# Altium schematic symbol library aiskylab-MCUs.SchLib: 242 symbols (part 13 of 21)
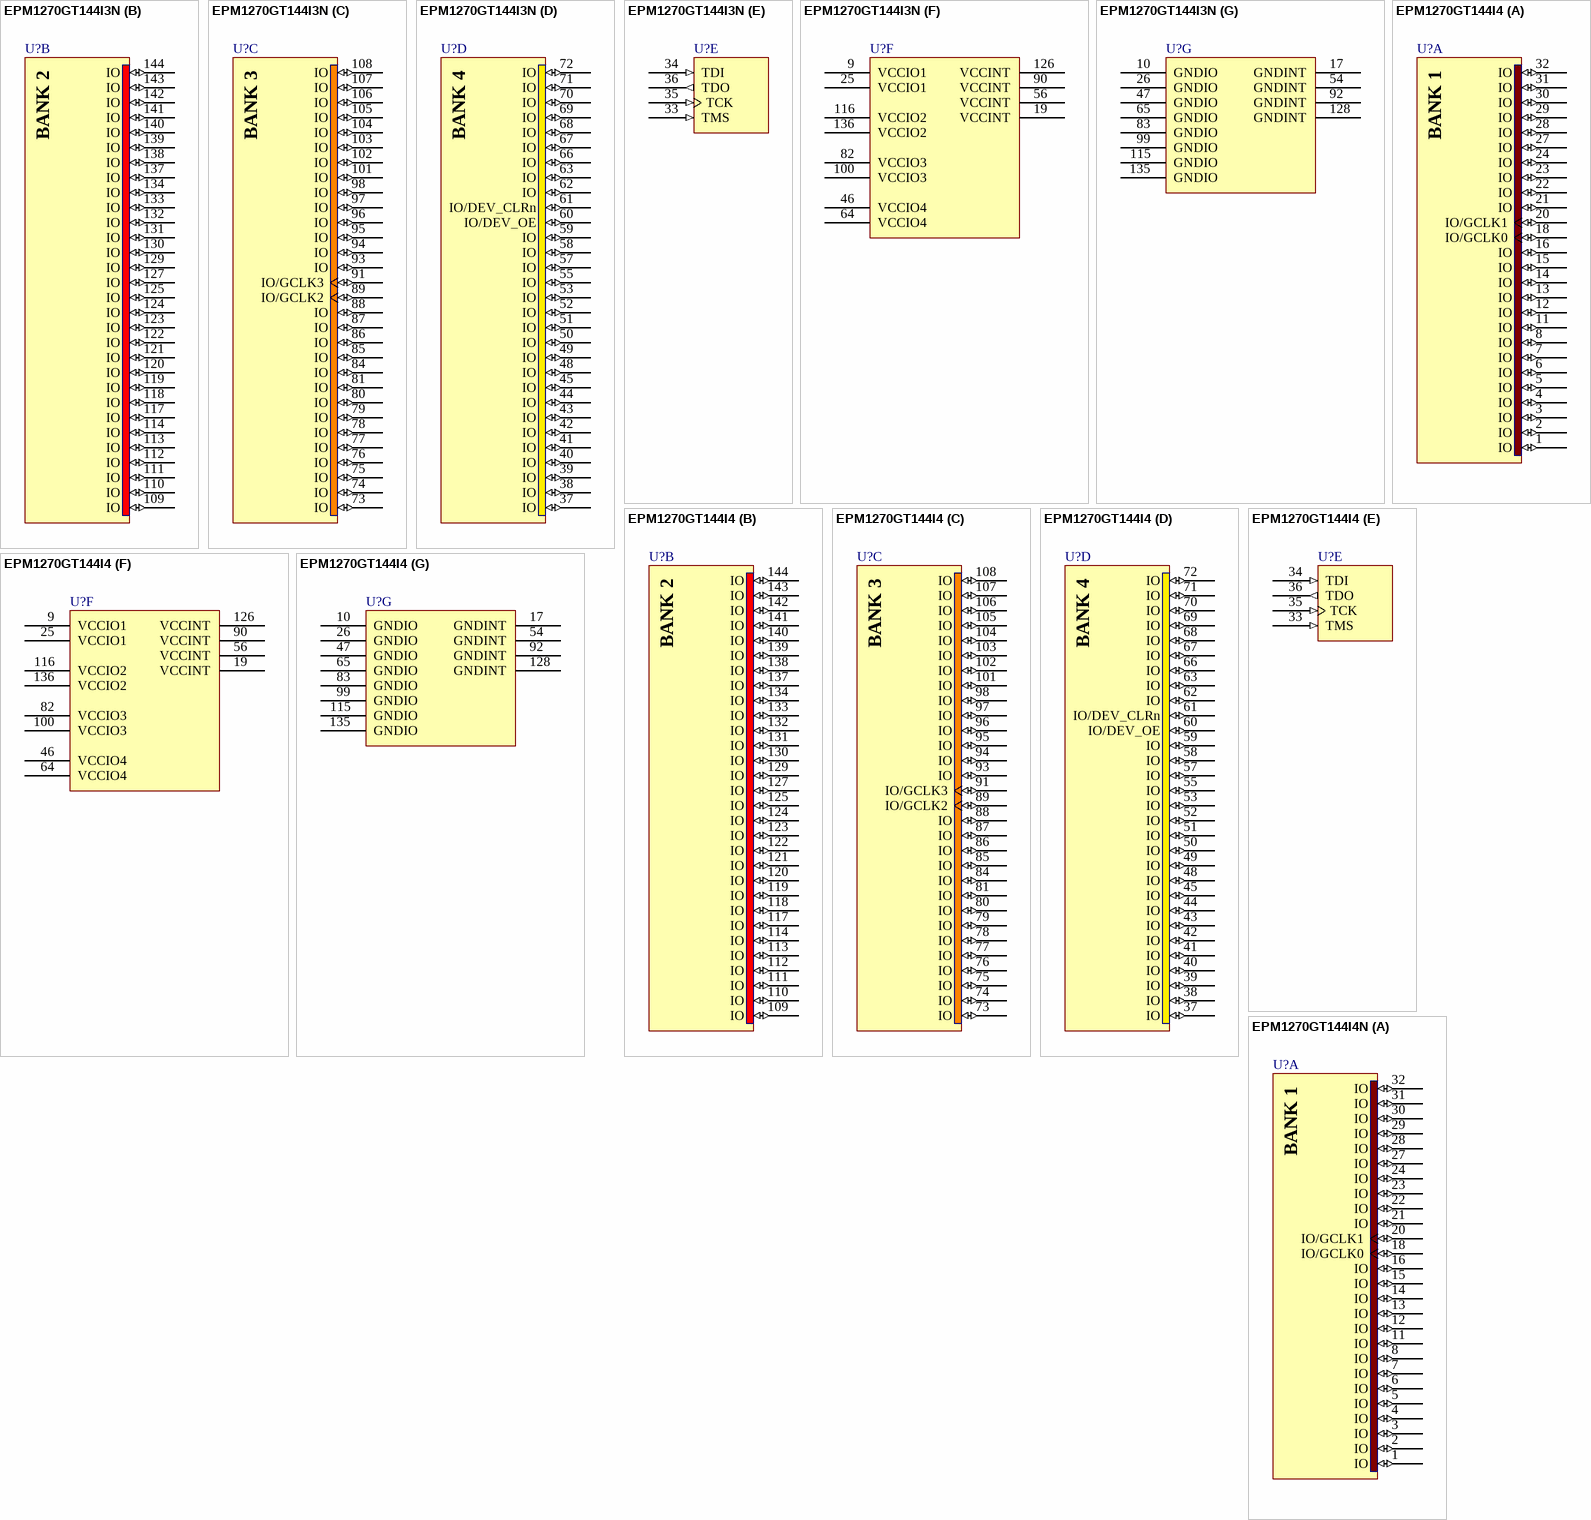
[diagram p176: symbols EPM1270GT144I3N to EPM1270GT144I4N]

## EPM1270GT144I4
designator U?
MAX II 1.8V CPLD, 116 IOs, 1,270 Logic Elements, 144-Pin Plastic TQFP, Industrial Temperature, Speed Grade 4; Note: Each set of VCCIO pins can be connected to 3.3V, 2.5V, 1.8V, or 1.5V.; Note: All VCCINT pins must be connected to 1.8V.; Published: 18-Aug-2005; LatestRevisionDate: 13-Apr-2006; LatestRevisionNote: IPC-7351 Footprint Added.; DatasheetVersion: ver1.8, Jul-2006; PackageVersion: ver15.4, Dec-2008; PackageReference: TQFP144; Publisher: Altium Limited; PackageDescription: 144-Pin Plastic Thin Quad Flat Pack (TQFP144) - Wire Bond; Code_JEDEC: MS-026-BFB; ComponentLink1Description: Manufacturer Link; ComponentLink1URL: http://www.altera.com/products/devices/cpld/max2/mx2-index.jsp; ComponentLink2Description: Handbook; ComponentLink2URL: http://www.altera.com/literature/hb/max2/max2_mii5v1.pdf; ComponentLink3Description: Packaging Specification; ComponentLink3URL: http://www.altera.com/literature/ds/dspkg.pdf
footprint TQFP144_N (Thin QFP, 144-Leads, Body 20x20mm, Pitch 0.5mm, IPC Medium Density)
footprint TQFP144_L (Thin QFP, 144-Leads, Body 20x20mm, Pitch 0.5mm, IPC High Density)
footprint TQFP144_M (Thin QFP, 144-Leads, Body 20x20mm, Pitch 0.5mm, IPC Low Density)
3D model EPM1270-TQFP144 (144-Pin Plastic Thin Quad Flat Pack (TQFP144) - Wire Bond)
part A pins: 1 IO (io), 2 IO (io), 3 IO (io), 4 IO (io), 5 IO (io), 6 IO (io), 7 IO (io), 8 IO (io), 11 IO (io), 12 IO (io), 13 IO (io), 14 IO (io), 15 IO (io), 16 IO (io), 18 IO/GCLK0 (io), 20 IO/GCLK1 (io), 21 IO (io), 22 IO (io), 23 IO (io), 24 IO (io), 27 IO (io), 28 IO (io), 29 IO (io), 30 IO (io), 31 IO (io), 32 IO (io)
part B pins: 109 IO (io), 110 IO (io), 111 IO (io), 112 IO (io), 113 IO (io), 114 IO (io), 117 IO (io), 118 IO (io), 119 IO (io), 120 IO (io), 121 IO (io), 122 IO (io), 123 IO (io), 124 IO (io), 125 IO (io), 127 IO (io), 129 IO (io), 130 IO (io), 131 IO (io), 132 IO (io), 133 IO (io), 134 IO (io), 137 IO (io), 138 IO (io), 139 IO (io), 140 IO (io), 141 IO (io), 142 IO (io), 143 IO (io), 144 IO (io)
part C pins: 73 IO (io), 74 IO (io), 75 IO (io), 76 IO (io), 77 IO (io), 78 IO (io), 79 IO (io), 80 IO (io), 81 IO (io), 84 IO (io), 85 IO (io), 86 IO (io), 87 IO (io), 88 IO (io), 89 IO/GCLK2 (io), 91 IO/GCLK3 (io), 93 IO (io), 94 IO (io), 95 IO (io), 96 IO (io), 97 IO (io), 98 IO (io), 101 IO (io), 102 IO (io), 103 IO (io), 104 IO (io), 105 IO (io), 106 IO (io), 107 IO (io), 108 IO (io)
part D pins: 37 IO (io), 38 IO (io), 39 IO (io), 40 IO (io), 41 IO (io), 42 IO (io), 43 IO (io), 44 IO (io), 45 IO (io), 48 IO (io), 49 IO (io), 50 IO (io), 51 IO (io), 52 IO (io), 53 IO (io), 55 IO (io), 57 IO (io), 58 IO (io), 59 IO (io), 60 IO/DEV_OE (io), 61 IO/DEV_CLRn (io), 62 IO (io), 63 IO (io), 66 IO (io), 67 IO (io), 68 IO (io), 69 IO (io), 70 IO (io), 71 IO (io), 72 IO (io)
part E pins: 33 TMS (in), 34 TDI (in), 35 TCK (in), 36 TDO (out)
part F pins: 9 VCCIO1 (power), 19 VCCINT (power), 25 VCCIO1 (power), 46 VCCIO4 (power), 56 VCCINT (power), 64 VCCIO4 (power), 82 VCCIO3 (power), 90 VCCINT (power), 100 VCCIO3 (power), 116 VCCIO2 (power), 126 VCCINT (power), 136 VCCIO2 (power)
part G pins: 10 GNDIO (power), 17 GNDINT (power), 26 GNDIO (power), 47 GNDIO (power), 54 GNDINT (power), 65 GNDIO (power), 83 GNDIO (power), 92 GNDINT (power), 99 GNDIO (power), 115 GNDIO (power), 128 GNDINT (power), 135 GNDIO (power)
part A text: BANK 1
part B text: BANK 2
part C text: BANK 3
part D text: BANK 4

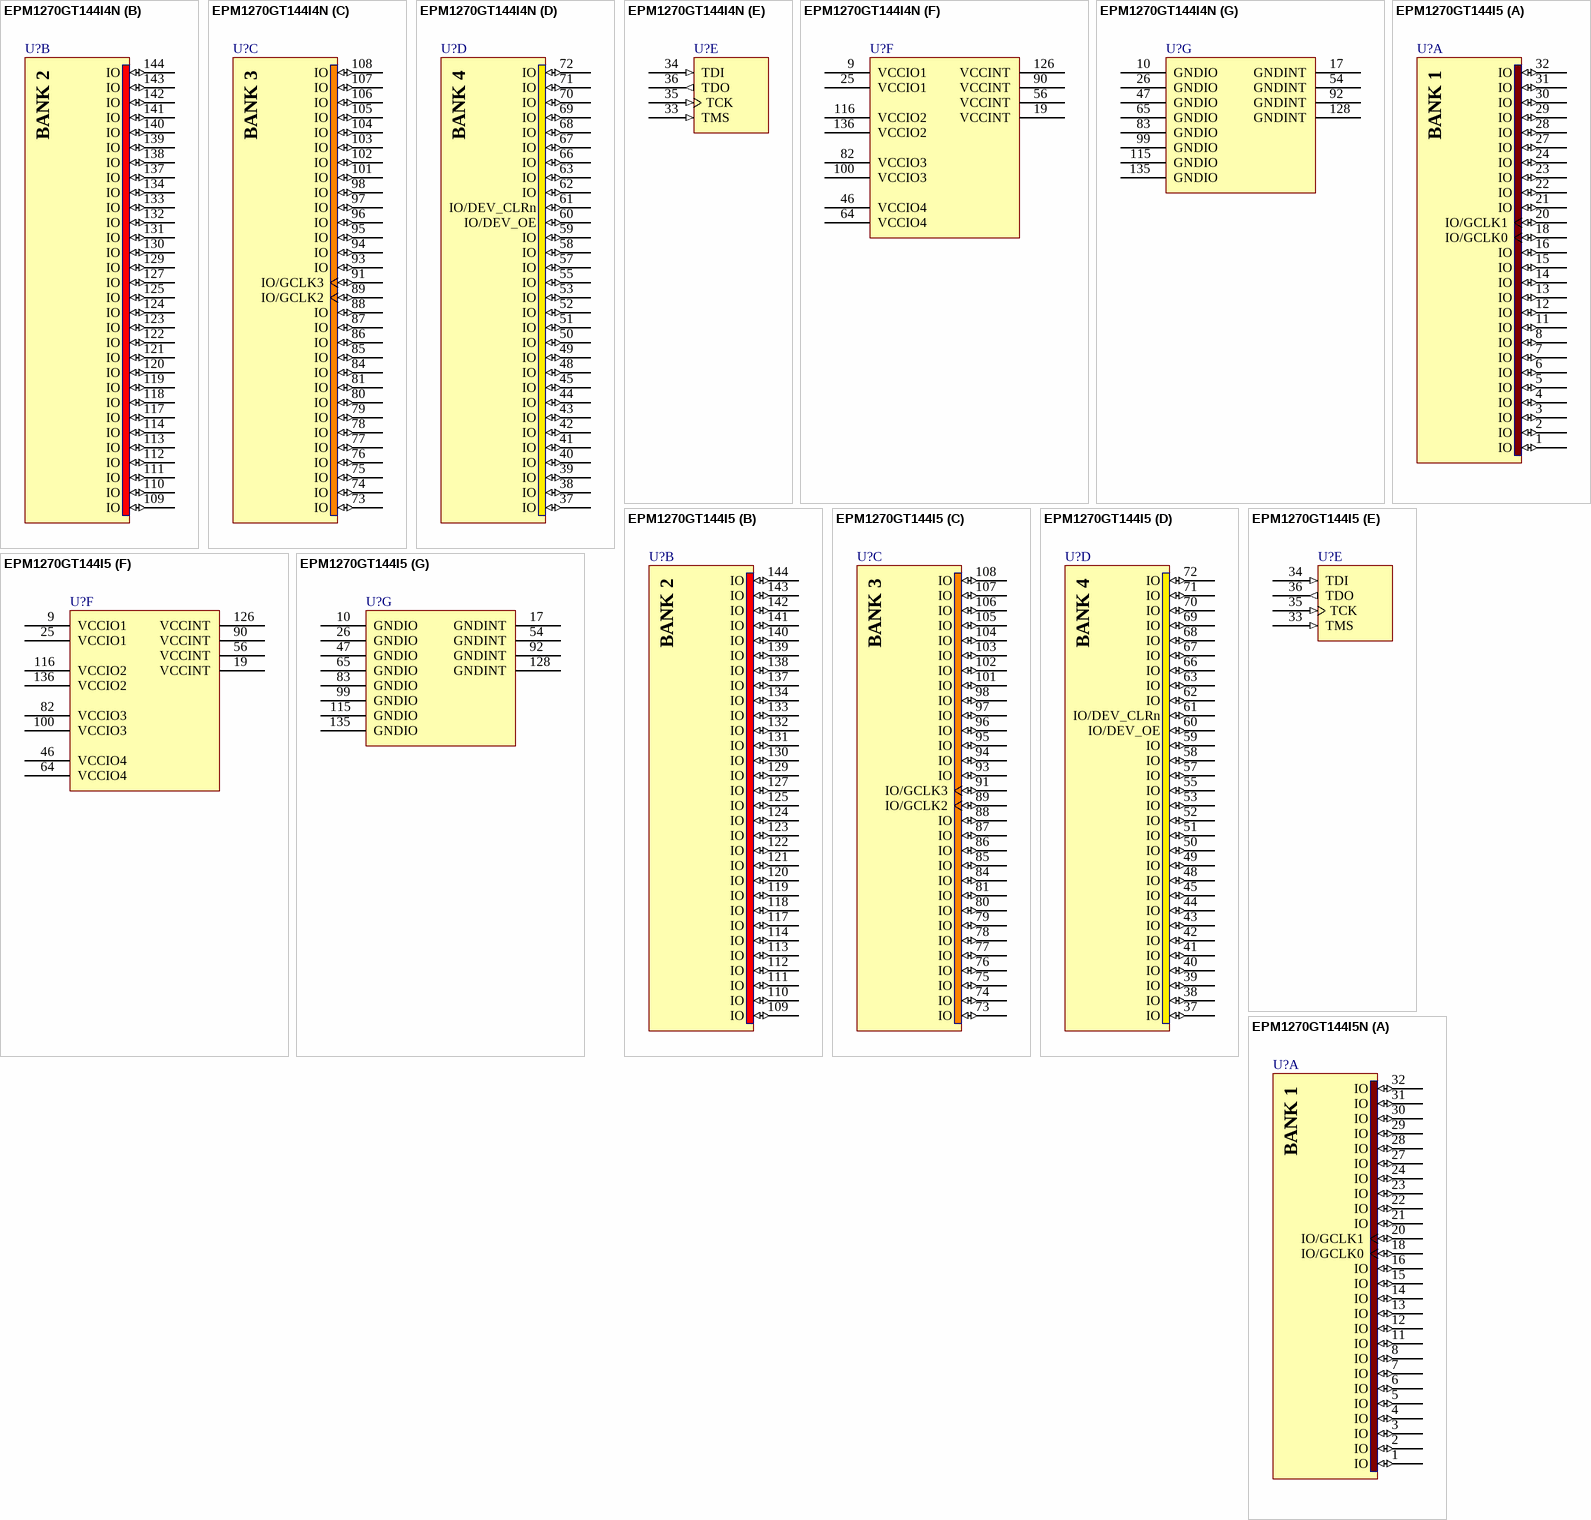
[diagram p100: symbols EPM1270GT144I4N to EPM1270GT144I5N]

## EPM1270GT144I4N
designator U?
MAX II 1.8V CPLD, 116 IOs, 1,270 Logic Elements, 144-Pin Plastic TQFP, Industrial Temperature, Speed Grade 4, Pb-Free; Note: Each set of VCCIO pins can be connected to 3.3V, 2.5V, 1.8V, or 1.5V.; Note: All VCCINT pins must be connected to 1.8V.; Published: 18-Aug-2005; LatestRevisionDate: 13-Apr-2006; LatestRevisionNote: IPC-7351 Footprint Added.; DatasheetVersion: ver1.8, Jul-2006; PackageVersion: ver15.4, Dec-2008; PackageReference: TQFP144; Publisher: Altium Limited; PackageDescription: 144-Pin Plastic Thin Quad Flat Pack (TQFP144) - Wire Bond; Code_JEDEC: MS-026-BFB; ComponentLink1Description: Manufacturer Link; ComponentLink1URL: http://www.altera.com/products/devices/cpld/max2/mx2-index.jsp; ComponentLink2Description: Handbook; ComponentLink2URL: http://www.altera.com/literature/hb/max2/max2_mii5v1.pdf; ComponentLink3Description: Packaging Specification; ComponentLink3URL: http://www.altera.com/literature/ds/dspkg.pdf
footprint TQFP144_N (Thin QFP, 144-Leads, Body 20x20mm, Pitch 0.5mm, IPC Medium Density)
footprint TQFP144_L (Thin QFP, 144-Leads, Body 20x20mm, Pitch 0.5mm, IPC High Density)
footprint TQFP144_M (Thin QFP, 144-Leads, Body 20x20mm, Pitch 0.5mm, IPC Low Density)
3D model EPM1270-TQFP144 (144-Pin Plastic Thin Quad Flat Pack (TQFP144) - Wire Bond)
part A pins: 1 IO (io), 2 IO (io), 3 IO (io), 4 IO (io), 5 IO (io), 6 IO (io), 7 IO (io), 8 IO (io), 11 IO (io), 12 IO (io), 13 IO (io), 14 IO (io), 15 IO (io), 16 IO (io), 18 IO/GCLK0 (io), 20 IO/GCLK1 (io), 21 IO (io), 22 IO (io), 23 IO (io), 24 IO (io), 27 IO (io), 28 IO (io), 29 IO (io), 30 IO (io), 31 IO (io), 32 IO (io)
part B pins: 109 IO (io), 110 IO (io), 111 IO (io), 112 IO (io), 113 IO (io), 114 IO (io), 117 IO (io), 118 IO (io), 119 IO (io), 120 IO (io), 121 IO (io), 122 IO (io), 123 IO (io), 124 IO (io), 125 IO (io), 127 IO (io), 129 IO (io), 130 IO (io), 131 IO (io), 132 IO (io), 133 IO (io), 134 IO (io), 137 IO (io), 138 IO (io), 139 IO (io), 140 IO (io), 141 IO (io), 142 IO (io), 143 IO (io), 144 IO (io)
part C pins: 73 IO (io), 74 IO (io), 75 IO (io), 76 IO (io), 77 IO (io), 78 IO (io), 79 IO (io), 80 IO (io), 81 IO (io), 84 IO (io), 85 IO (io), 86 IO (io), 87 IO (io), 88 IO (io), 89 IO/GCLK2 (io), 91 IO/GCLK3 (io), 93 IO (io), 94 IO (io), 95 IO (io), 96 IO (io), 97 IO (io), 98 IO (io), 101 IO (io), 102 IO (io), 103 IO (io), 104 IO (io), 105 IO (io), 106 IO (io), 107 IO (io), 108 IO (io)
part D pins: 37 IO (io), 38 IO (io), 39 IO (io), 40 IO (io), 41 IO (io), 42 IO (io), 43 IO (io), 44 IO (io), 45 IO (io), 48 IO (io), 49 IO (io), 50 IO (io), 51 IO (io), 52 IO (io), 53 IO (io), 55 IO (io), 57 IO (io), 58 IO (io), 59 IO (io), 60 IO/DEV_OE (io), 61 IO/DEV_CLRn (io), 62 IO (io), 63 IO (io), 66 IO (io), 67 IO (io), 68 IO (io), 69 IO (io), 70 IO (io), 71 IO (io), 72 IO (io)
part E pins: 33 TMS (in), 34 TDI (in), 35 TCK (in), 36 TDO (out)
part F pins: 9 VCCIO1 (power), 19 VCCINT (power), 25 VCCIO1 (power), 46 VCCIO4 (power), 56 VCCINT (power), 64 VCCIO4 (power), 82 VCCIO3 (power), 90 VCCINT (power), 100 VCCIO3 (power), 116 VCCIO2 (power), 126 VCCINT (power), 136 VCCIO2 (power)
part G pins: 10 GNDIO (power), 17 GNDINT (power), 26 GNDIO (power), 47 GNDIO (power), 54 GNDINT (power), 65 GNDIO (power), 83 GNDIO (power), 92 GNDINT (power), 99 GNDIO (power), 115 GNDIO (power), 128 GNDINT (power), 135 GNDIO (power)
part A text: BANK 1
part B text: BANK 2
part C text: BANK 3
part D text: BANK 4

## EPM1270GT144I5
designator U?
MAX II 1.8V CPLD, 116 IOs, 1,270 Logic Elements, 144-Pin Plastic TQFP, Industrial Temperature, Speed Grade 5; Note: Each set of VCCIO pins can be connected to 3.3V, 2.5V, 1.8V, or 1.5V.; Note: All VCCINT pins must be connected to 1.8V.; Published: 18-Aug-2005; LatestRevisionDate: 13-Apr-2006; LatestRevisionNote: IPC-7351 Footprint Added.; DatasheetVersion: ver1.8, Jul-2006; PackageVersion: ver15.4, Dec-2008; PackageReference: TQFP144; Publisher: Altium Limited; PackageDescription: 144-Pin Plastic Thin Quad Flat Pack (TQFP144) - Wire Bond; Code_JEDEC: MS-026-BFB; ComponentLink1Description: Manufacturer Link; ComponentLink1URL: http://www.altera.com/products/devices/cpld/max2/mx2-index.jsp; ComponentLink2Description: Handbook; ComponentLink2URL: http://www.altera.com/literature/hb/max2/max2_mii5v1.pdf; ComponentLink3Description: Packaging Specification; ComponentLink3URL: http://www.altera.com/literature/ds/dspkg.pdf
footprint TQFP144_N (Thin QFP, 144-Leads, Body 20x20mm, Pitch 0.5mm, IPC Medium Density)
footprint TQFP144_L (Thin QFP, 144-Leads, Body 20x20mm, Pitch 0.5mm, IPC High Density)
footprint TQFP144_M (Thin QFP, 144-Leads, Body 20x20mm, Pitch 0.5mm, IPC Low Density)
3D model EPM1270-TQFP144 (144-Pin Plastic Thin Quad Flat Pack (TQFP144) - Wire Bond)
part A pins: 1 IO (io), 2 IO (io), 3 IO (io), 4 IO (io), 5 IO (io), 6 IO (io), 7 IO (io), 8 IO (io), 11 IO (io), 12 IO (io), 13 IO (io), 14 IO (io), 15 IO (io), 16 IO (io), 18 IO/GCLK0 (io), 20 IO/GCLK1 (io), 21 IO (io), 22 IO (io), 23 IO (io), 24 IO (io), 27 IO (io), 28 IO (io), 29 IO (io), 30 IO (io), 31 IO (io), 32 IO (io)
part B pins: 109 IO (io), 110 IO (io), 111 IO (io), 112 IO (io), 113 IO (io), 114 IO (io), 117 IO (io), 118 IO (io), 119 IO (io), 120 IO (io), 121 IO (io), 122 IO (io), 123 IO (io), 124 IO (io), 125 IO (io), 127 IO (io), 129 IO (io), 130 IO (io), 131 IO (io), 132 IO (io), 133 IO (io), 134 IO (io), 137 IO (io), 138 IO (io), 139 IO (io), 140 IO (io), 141 IO (io), 142 IO (io), 143 IO (io), 144 IO (io)
part C pins: 73 IO (io), 74 IO (io), 75 IO (io), 76 IO (io), 77 IO (io), 78 IO (io), 79 IO (io), 80 IO (io), 81 IO (io), 84 IO (io), 85 IO (io), 86 IO (io), 87 IO (io), 88 IO (io), 89 IO/GCLK2 (io), 91 IO/GCLK3 (io), 93 IO (io), 94 IO (io), 95 IO (io), 96 IO (io), 97 IO (io), 98 IO (io), 101 IO (io), 102 IO (io), 103 IO (io), 104 IO (io), 105 IO (io), 106 IO (io), 107 IO (io), 108 IO (io)
part D pins: 37 IO (io), 38 IO (io), 39 IO (io), 40 IO (io), 41 IO (io), 42 IO (io), 43 IO (io), 44 IO (io), 45 IO (io), 48 IO (io), 49 IO (io), 50 IO (io), 51 IO (io), 52 IO (io), 53 IO (io), 55 IO (io), 57 IO (io), 58 IO (io), 59 IO (io), 60 IO/DEV_OE (io), 61 IO/DEV_CLRn (io), 62 IO (io), 63 IO (io), 66 IO (io), 67 IO (io), 68 IO (io), 69 IO (io), 70 IO (io), 71 IO (io), 72 IO (io)
part E pins: 33 TMS (in), 34 TDI (in), 35 TCK (in), 36 TDO (out)
part F pins: 9 VCCIO1 (power), 19 VCCINT (power), 25 VCCIO1 (power), 46 VCCIO4 (power), 56 VCCINT (power), 64 VCCIO4 (power), 82 VCCIO3 (power), 90 VCCINT (power), 100 VCCIO3 (power), 116 VCCIO2 (power), 126 VCCINT (power), 136 VCCIO2 (power)
part G pins: 10 GNDIO (power), 17 GNDINT (power), 26 GNDIO (power), 47 GNDIO (power), 54 GNDINT (power), 65 GNDIO (power), 83 GNDIO (power), 92 GNDINT (power), 99 GNDIO (power), 115 GNDIO (power), 128 GNDINT (power), 135 GNDIO (power)
part A text: BANK 1
part B text: BANK 2
part C text: BANK 3
part D text: BANK 4

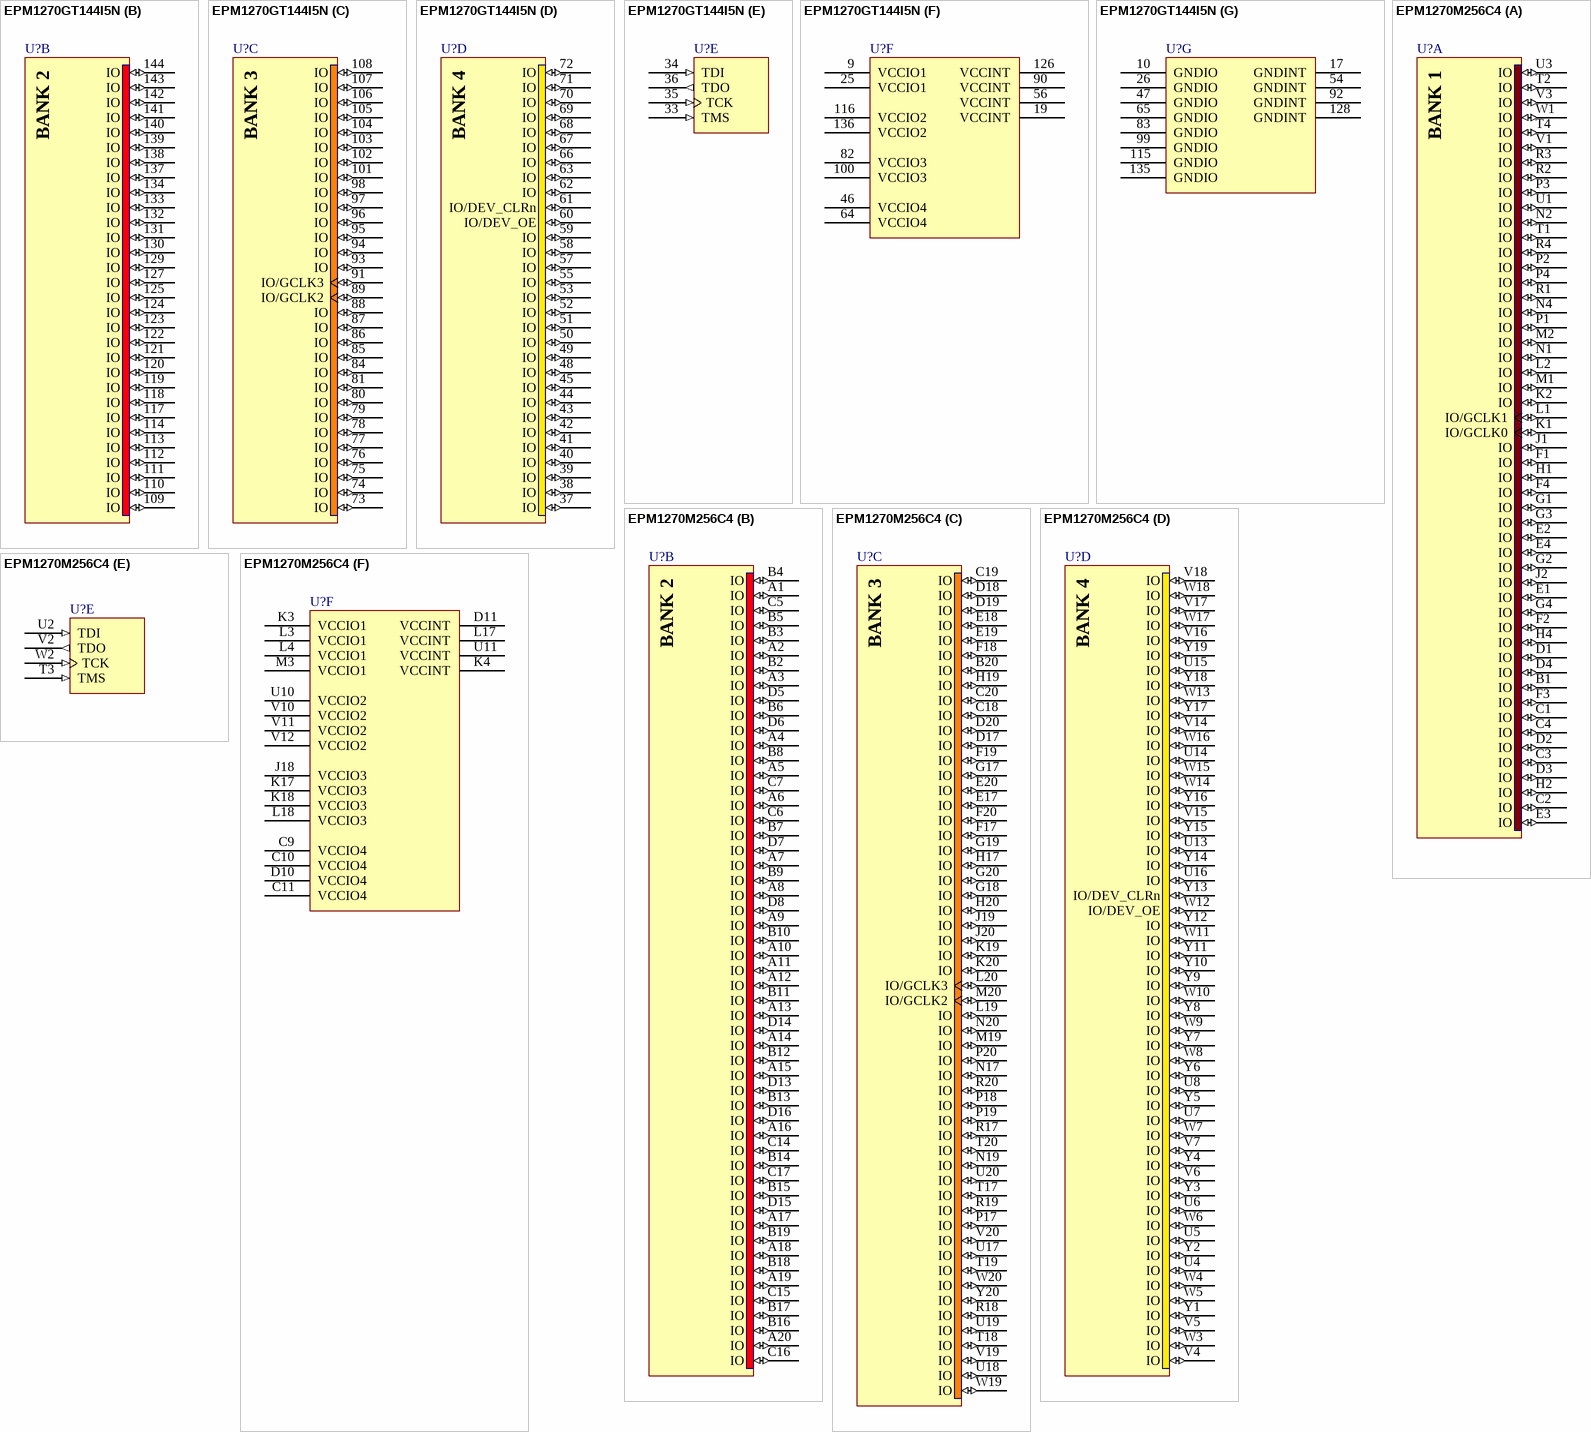
[diagram p101: symbols EPM1270GT144I5N to EPM1270M256C4]

## EPM1270GT144I5N
designator U?
MAX II 1.8V CPLD, 116 IOs, 1,270 Logic Elements, 144-Pin Plastic TQFP, Industrial Temperature, Speed Grade 5, Pb-Free; Note: Each set of VCCIO pins can be connected to 3.3V, 2.5V, 1.8V, or 1.5V.; Note: All VCCINT pins must be connected to 1.8V.; Published: 18-Aug-2005; LatestRevisionDate: 13-Apr-2006; LatestRevisionNote: IPC-7351 Footprint Added.; DatasheetVersion: ver1.8, Jul-2006; PackageVersion: ver15.4, Dec-2008; PackageReference: TQFP144; Publisher: Altium Limited; PackageDescription: 144-Pin Plastic Thin Quad Flat Pack (TQFP144) - Wire Bond; Code_JEDEC: MS-026-BFB; ComponentLink1Description: Manufacturer Link; ComponentLink1URL: http://www.altera.com/products/devices/cpld/max2/mx2-index.jsp; ComponentLink2Description: Handbook; ComponentLink2URL: http://www.altera.com/literature/hb/max2/max2_mii5v1.pdf; ComponentLink3Description: Packaging Specification; ComponentLink3URL: http://www.altera.com/literature/ds/dspkg.pdf
footprint TQFP144_N (Thin QFP, 144-Leads, Body 20x20mm, Pitch 0.5mm, IPC Medium Density)
footprint TQFP144_L (Thin QFP, 144-Leads, Body 20x20mm, Pitch 0.5mm, IPC High Density)
footprint TQFP144_M (Thin QFP, 144-Leads, Body 20x20mm, Pitch 0.5mm, IPC Low Density)
3D model EPM1270-TQFP144 (144-Pin Plastic Thin Quad Flat Pack (TQFP144) - Wire Bond)
part A pins: 1 IO (io), 2 IO (io), 3 IO (io), 4 IO (io), 5 IO (io), 6 IO (io), 7 IO (io), 8 IO (io), 11 IO (io), 12 IO (io), 13 IO (io), 14 IO (io), 15 IO (io), 16 IO (io), 18 IO/GCLK0 (io), 20 IO/GCLK1 (io), 21 IO (io), 22 IO (io), 23 IO (io), 24 IO (io), 27 IO (io), 28 IO (io), 29 IO (io), 30 IO (io), 31 IO (io), 32 IO (io)
part B pins: 109 IO (io), 110 IO (io), 111 IO (io), 112 IO (io), 113 IO (io), 114 IO (io), 117 IO (io), 118 IO (io), 119 IO (io), 120 IO (io), 121 IO (io), 122 IO (io), 123 IO (io), 124 IO (io), 125 IO (io), 127 IO (io), 129 IO (io), 130 IO (io), 131 IO (io), 132 IO (io), 133 IO (io), 134 IO (io), 137 IO (io), 138 IO (io), 139 IO (io), 140 IO (io), 141 IO (io), 142 IO (io), 143 IO (io), 144 IO (io)
part C pins: 73 IO (io), 74 IO (io), 75 IO (io), 76 IO (io), 77 IO (io), 78 IO (io), 79 IO (io), 80 IO (io), 81 IO (io), 84 IO (io), 85 IO (io), 86 IO (io), 87 IO (io), 88 IO (io), 89 IO/GCLK2 (io), 91 IO/GCLK3 (io), 93 IO (io), 94 IO (io), 95 IO (io), 96 IO (io), 97 IO (io), 98 IO (io), 101 IO (io), 102 IO (io), 103 IO (io), 104 IO (io), 105 IO (io), 106 IO (io), 107 IO (io), 108 IO (io)
part D pins: 37 IO (io), 38 IO (io), 39 IO (io), 40 IO (io), 41 IO (io), 42 IO (io), 43 IO (io), 44 IO (io), 45 IO (io), 48 IO (io), 49 IO (io), 50 IO (io), 51 IO (io), 52 IO (io), 53 IO (io), 55 IO (io), 57 IO (io), 58 IO (io), 59 IO (io), 60 IO/DEV_OE (io), 61 IO/DEV_CLRn (io), 62 IO (io), 63 IO (io), 66 IO (io), 67 IO (io), 68 IO (io), 69 IO (io), 70 IO (io), 71 IO (io), 72 IO (io)
part E pins: 33 TMS (in), 34 TDI (in), 35 TCK (in), 36 TDO (out)
part F pins: 9 VCCIO1 (power), 19 VCCINT (power), 25 VCCIO1 (power), 46 VCCIO4 (power), 56 VCCINT (power), 64 VCCIO4 (power), 82 VCCIO3 (power), 90 VCCINT (power), 100 VCCIO3 (power), 116 VCCIO2 (power), 126 VCCINT (power), 136 VCCIO2 (power)
part G pins: 10 GNDIO (power), 17 GNDINT (power), 26 GNDIO (power), 47 GNDIO (power), 54 GNDINT (power), 65 GNDIO (power), 83 GNDIO (power), 92 GNDINT (power), 99 GNDIO (power), 115 GNDIO (power), 128 GNDINT (power), 135 GNDIO (power)
part A text: BANK 1
part B text: BANK 2
part C text: BANK 3
part D text: BANK 4

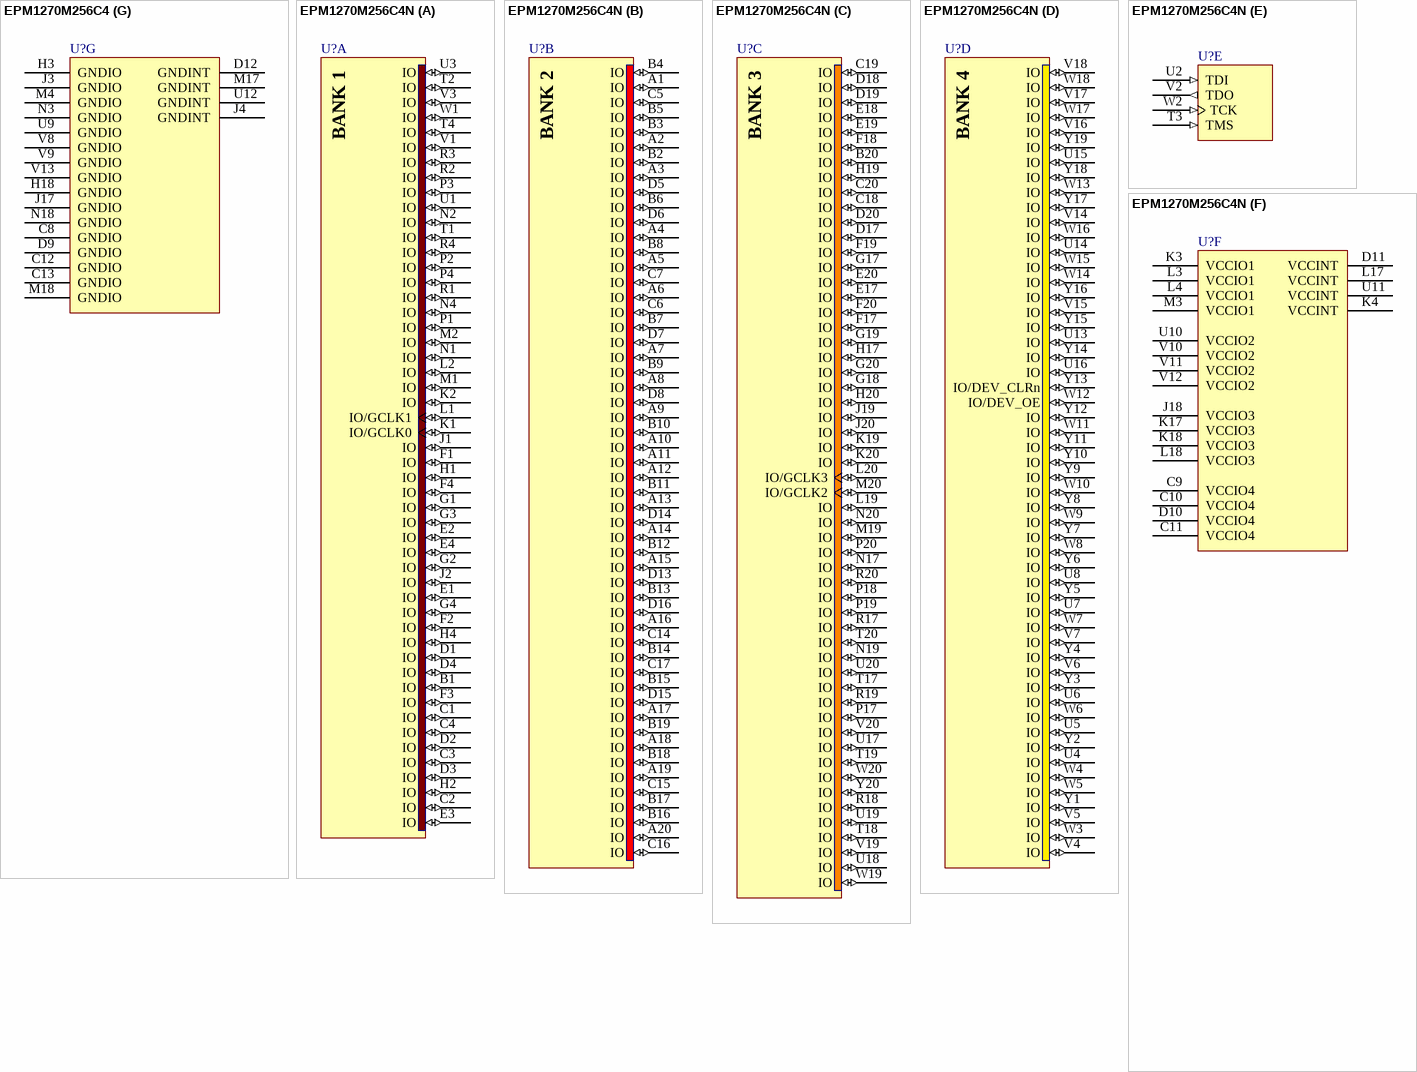
[diagram p102: symbols EPM1270M256C4 to EPM1270M256C4N]

## EPM1270M256C4
designator U?
MAX II 3.3/2.5V CPLD, 212 IOs, 1270 Logic Elements, 256-Pin Micro Fineline BGA, Commercial Temperature, Speed Grade 4; Note: Each set of VCCIO pins can be connected to 3.3V, 2.5V, 1.8V, or 1.5V.; Note: All VCCINT pins must be connected to either 3.3V or 2.5V (but not a combination of both).; Published: 31-Jul-2006; DatasheetVersion: ver1.8, Jul-2006; PackageVersion: ver14.3, Jul-2006; PackageReference: MBGA256; Publisher: Altium Limited; PackageDescription: 256-Ball Micro FineLine Ball Grid Array (MBGA256); ComponentLink1Description: Manufacturer Link; ComponentLink1URL: http://www.altera.com/products/devices/cpld/max2/mx2-index.jsp; ComponentLink2Description: Handbook; ComponentLink2URL: http://www.altera.com/literature/hb/max2/max2_mii5v1.pdf; ComponentLink3Description: Packaging Specification; ComponentLink3URL: http://www.altera.com/literature/ds/dspkg.pdf
footprint MBGA256 (BGA, 256-Leads, Body 11x11mm, Pitch 0.5mm)
3D model EPM1270-MBGA256 (256-Ball Micro FineLine Ball Grid Array (MBGA256))
part A pins: B1 IO (io), C1 IO (io), C2 IO (io), C3 IO (io), C4 IO (io), D1 IO (io), D2 IO (io), D3 IO (io), D4 IO (io), E1 IO (io), E2 IO (io), E3 IO (io), E4 IO (io), F1 IO (io), F2 IO (io), F3 IO (io), F4 IO (io), G1 IO (io), G2 IO (io), G3 IO (io), G4 IO (io), H1 IO (io), H2 IO (io), H4 IO (io), J1 IO (io), J2 IO (io), K1 IO/GCLK0 (io), K2 IO (io), L1 IO/GCLK1 (io), L2 IO (io), M1 IO (io), M2 IO (io), N1 IO (io), N2 IO (io), N4 IO (io), P1 IO (io), P2 IO (io), P3 IO (io), P4 IO (io), R1 IO (io), R2 IO (io), R3 IO (io), R4 IO (io), T1 IO (io), T2 IO (io), T4 IO (io), U1 IO (io), U3 IO (io), V1 IO (io), V3 IO (io), W1 IO (io)
part B pins: A1 IO (io), A2 IO (io), A3 IO (io), A4 IO (io), A5 IO (io), A6 IO (io), A7 IO (io), A8 IO (io), A9 IO (io), A10 IO (io), A11 IO (io), A12 IO (io), A13 IO (io), A14 IO (io), A15 IO (io), A16 IO (io), A17 IO (io), A18 IO (io), A19 IO (io), A20 IO (io), B2 IO (io), B3 IO (io), B4 IO (io), B5 IO (io), B6 IO (io), B7 IO (io), B8 IO (io), B9 IO (io), B10 IO (io), B11 IO (io), B12 IO (io), B13 IO (io), B14 IO (io), B15 IO (io), B16 IO (io), B17 IO (io), B18 IO (io), B19 IO (io), C5 IO (io), C6 IO (io), C7 IO (io), C14 IO (io), C15 IO (io), C16 IO (io), C17 IO (io), D5 IO (io), D6 IO (io), D7 IO (io), D8 IO (io), D13 IO (io), D14 IO (io), D15 IO (io), D16 IO (io)
part C pins: B20 IO (io), C18 IO (io), C19 IO (io), C20 IO (io), D17 IO (io), D18 IO (io), D19 IO (io), D20 IO (io), E17 IO (io), E18 IO (io), E19 IO (io), E20 IO (io), F17 IO (io), F18 IO (io), F19 IO (io), F20 IO (io), G17 IO (io), G18 IO (io), G19 IO (io), G20 IO (io), H17 IO (io), H19 IO (io), H20 IO (io), J19 IO (io), J20 IO (io), K19 IO (io), K20 IO (io), L19 IO (io), L20 IO/GCLK3 (io), M19 IO (io), M20 IO/GCLK2 (io), N17 IO (io), N19 IO (io), N20 IO (io), P17 IO (io), P18 IO (io), P19 IO (io), P20 IO (io), R17 IO (io), R18 IO (io), R19 IO (io), R20 IO (io), T17 IO (io), T18 IO (io), T19 IO (io), T20 IO (io), U17 IO (io), U18 IO (io), U19 IO (io), U20 IO (io), V19 IO (io), V20 IO (io), W19 IO (io), W20 IO (io), Y20 IO (io)
part D pins: U4 IO (io), U5 IO (io), U6 IO (io), U7 IO (io), U8 IO (io), U13 IO (io), U14 IO (io), U15 IO (io), U16 IO (io), V4 IO (io), V5 IO (io), V6 IO (io), V7 IO (io), V14 IO (io), V15 IO (io), V16 IO (io), V17 IO (io), V18 IO (io), W3 IO (io), W4 IO (io), W5 IO (io), W6 IO (io), W7 IO (io), W8 IO (io), W9 IO (io), W10 IO (io), W11 IO (io), W12 IO/DEV_OE (io), W13 IO (io), W14 IO (io), W15 IO (io), W16 IO (io), W17 IO (io), W18 IO (io), Y1 IO (io), Y2 IO (io), Y3 IO (io), Y4 IO (io), Y5 IO (io), Y6 IO (io), Y7 IO (io), Y8 IO (io), Y9 IO (io), Y10 IO (io), Y11 IO (io), Y12 IO (io), Y13 IO/DEV_CLRn (io), Y14 IO (io), Y15 IO (io), Y16 IO (io), Y17 IO (io), Y18 IO (io), Y19 IO (io)
part E pins: T3 TMS (in), U2 TDI (in), V2 TDO (out), W2 TCK (in)
part F pins: C9 VCCIO4 (power), C10 VCCIO4 (power), C11 VCCIO4 (power), D10 VCCIO4 (power), D11 VCCINT (power), J18 VCCIO3 (power), K3 VCCIO1 (power), K4 VCCINT (power), K17 VCCIO3 (power), K18 VCCIO3 (power), L3 VCCIO1 (power), L4 VCCIO1 (power), L17 VCCINT (power), L18 VCCIO3 (power), M3 VCCIO1 (power), U10 VCCIO2 (power), U11 VCCINT (power), V10 VCCIO2 (power), V11 VCCIO2 (power), V12 VCCIO2 (power)
part G pins: C8 GNDIO (power), C12 GNDIO (power), C13 GNDIO (power), D9 GNDIO (power), D12 GNDINT (power), H3 GNDIO (power), H18 GNDIO (power), J3 GNDIO (power), J4 GNDINT (power), J17 GNDIO (power), M4 GNDIO (power), M17 GNDINT (power), M18 GNDIO (power), N3 GNDIO (power), N18 GNDIO (power), U9 GNDIO (power), U12 GNDINT (power), V8 GNDIO (power), V9 GNDIO (power), V13 GNDIO (power)
part A text: BANK 1
part B text: BANK 2
part C text: BANK 3
part D text: BANK 4

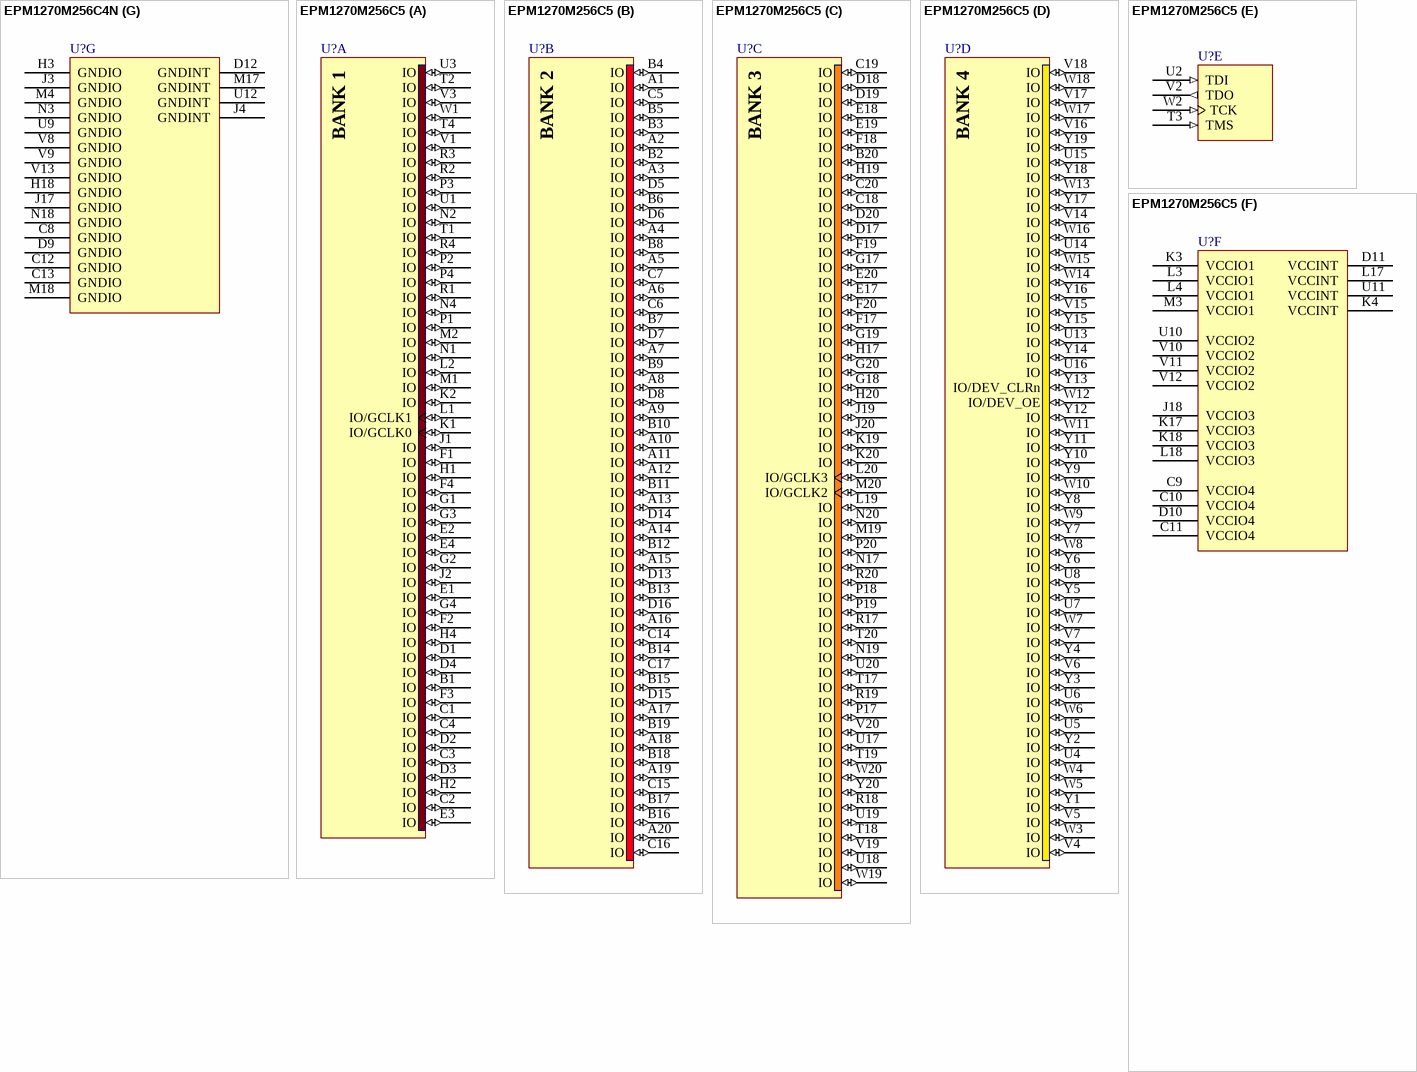
[diagram p103: symbols EPM1270M256C4N to EPM1270M256C5]

## EPM1270M256C4N
designator U?
MAX II 3.3/2.5V CPLD, 212 IOs, 1270 Logic Elements, 256-Pin Micro Fineline BGA, Commercial Temperature, Speed Grade 4, Pb-Free; Note: Each set of VCCIO pins can be connected to 3.3V, 2.5V, 1.8V, or 1.5V.; Note: All VCCINT pins must be connected to either 3.3V or 2.5V (but not a combination of both).; Published: 31-Jul-2006; DatasheetVersion: ver1.8, Jul-2006; PackageVersion: ver14.3, Jul-2006; PackageReference: MBGA256; Publisher: Altium Limited; PackageDescription: 256-Ball Micro FineLine Ball Grid Array (MBGA256); Supplier 1: Digi-Key; Supplier Part Number 1: 544-1722-ND; ComponentLink1Description: Manufacturer Link; ComponentLink1URL: http://www.altera.com/products/devices/cpld/max2/mx2-index.jsp; ComponentLink2Description: Handbook; ComponentLink2URL: http://www.altera.com/literature/hb/max2/max2_mii5v1.pdf; ComponentLink3Description: Packaging Specification; ComponentLink3URL: http://www.altera.com/literature/ds/dspkg.pdf
footprint MBGA256 (BGA, 256-Leads, Body 11x11mm, Pitch 0.5mm)
3D model EPM1270-MBGA256 (256-Ball Micro FineLine Ball Grid Array (MBGA256))
part A pins: B1 IO (io), C1 IO (io), C2 IO (io), C3 IO (io), C4 IO (io), D1 IO (io), D2 IO (io), D3 IO (io), D4 IO (io), E1 IO (io), E2 IO (io), E3 IO (io), E4 IO (io), F1 IO (io), F2 IO (io), F3 IO (io), F4 IO (io), G1 IO (io), G2 IO (io), G3 IO (io), G4 IO (io), H1 IO (io), H2 IO (io), H4 IO (io), J1 IO (io), J2 IO (io), K1 IO/GCLK0 (io), K2 IO (io), L1 IO/GCLK1 (io), L2 IO (io), M1 IO (io), M2 IO (io), N1 IO (io), N2 IO (io), N4 IO (io), P1 IO (io), P2 IO (io), P3 IO (io), P4 IO (io), R1 IO (io), R2 IO (io), R3 IO (io), R4 IO (io), T1 IO (io), T2 IO (io), T4 IO (io), U1 IO (io), U3 IO (io), V1 IO (io), V3 IO (io), W1 IO (io)
part B pins: A1 IO (io), A2 IO (io), A3 IO (io), A4 IO (io), A5 IO (io), A6 IO (io), A7 IO (io), A8 IO (io), A9 IO (io), A10 IO (io), A11 IO (io), A12 IO (io), A13 IO (io), A14 IO (io), A15 IO (io), A16 IO (io), A17 IO (io), A18 IO (io), A19 IO (io), A20 IO (io), B2 IO (io), B3 IO (io), B4 IO (io), B5 IO (io), B6 IO (io), B7 IO (io), B8 IO (io), B9 IO (io), B10 IO (io), B11 IO (io), B12 IO (io), B13 IO (io), B14 IO (io), B15 IO (io), B16 IO (io), B17 IO (io), B18 IO (io), B19 IO (io), C5 IO (io), C6 IO (io), C7 IO (io), C14 IO (io), C15 IO (io), C16 IO (io), C17 IO (io), D5 IO (io), D6 IO (io), D7 IO (io), D8 IO (io), D13 IO (io), D14 IO (io), D15 IO (io), D16 IO (io)
part C pins: B20 IO (io), C18 IO (io), C19 IO (io), C20 IO (io), D17 IO (io), D18 IO (io), D19 IO (io), D20 IO (io), E17 IO (io), E18 IO (io), E19 IO (io), E20 IO (io), F17 IO (io), F18 IO (io), F19 IO (io), F20 IO (io), G17 IO (io), G18 IO (io), G19 IO (io), G20 IO (io), H17 IO (io), H19 IO (io), H20 IO (io), J19 IO (io), J20 IO (io), K19 IO (io), K20 IO (io), L19 IO (io), L20 IO/GCLK3 (io), M19 IO (io), M20 IO/GCLK2 (io), N17 IO (io), N19 IO (io), N20 IO (io), P17 IO (io), P18 IO (io), P19 IO (io), P20 IO (io), R17 IO (io), R18 IO (io), R19 IO (io), R20 IO (io), T17 IO (io), T18 IO (io), T19 IO (io), T20 IO (io), U17 IO (io), U18 IO (io), U19 IO (io), U20 IO (io), V19 IO (io), V20 IO (io), W19 IO (io), W20 IO (io), Y20 IO (io)
part D pins: U4 IO (io), U5 IO (io), U6 IO (io), U7 IO (io), U8 IO (io), U13 IO (io), U14 IO (io), U15 IO (io), U16 IO (io), V4 IO (io), V5 IO (io), V6 IO (io), V7 IO (io), V14 IO (io), V15 IO (io), V16 IO (io), V17 IO (io), V18 IO (io), W3 IO (io), W4 IO (io), W5 IO (io), W6 IO (io), W7 IO (io), W8 IO (io), W9 IO (io), W10 IO (io), W11 IO (io), W12 IO/DEV_OE (io), W13 IO (io), W14 IO (io), W15 IO (io), W16 IO (io), W17 IO (io), W18 IO (io), Y1 IO (io), Y2 IO (io), Y3 IO (io), Y4 IO (io), Y5 IO (io), Y6 IO (io), Y7 IO (io), Y8 IO (io), Y9 IO (io), Y10 IO (io), Y11 IO (io), Y12 IO (io), Y13 IO/DEV_CLRn (io), Y14 IO (io), Y15 IO (io), Y16 IO (io), Y17 IO (io), Y18 IO (io), Y19 IO (io)
part E pins: T3 TMS (in), U2 TDI (in), V2 TDO (out), W2 TCK (in)
part F pins: C9 VCCIO4 (power), C10 VCCIO4 (power), C11 VCCIO4 (power), D10 VCCIO4 (power), D11 VCCINT (power), J18 VCCIO3 (power), K3 VCCIO1 (power), K4 VCCINT (power), K17 VCCIO3 (power), K18 VCCIO3 (power), L3 VCCIO1 (power), L4 VCCIO1 (power), L17 VCCINT (power), L18 VCCIO3 (power), M3 VCCIO1 (power), U10 VCCIO2 (power), U11 VCCINT (power), V10 VCCIO2 (power), V11 VCCIO2 (power), V12 VCCIO2 (power)
part G pins: C8 GNDIO (power), C12 GNDIO (power), C13 GNDIO (power), D9 GNDIO (power), D12 GNDINT (power), H3 GNDIO (power), H18 GNDIO (power), J3 GNDIO (power), J4 GNDINT (power), J17 GNDIO (power), M4 GNDIO (power), M17 GNDINT (power), M18 GNDIO (power), N3 GNDIO (power), N18 GNDIO (power), U9 GNDIO (power), U12 GNDINT (power), V8 GNDIO (power), V9 GNDIO (power), V13 GNDIO (power)
part A text: BANK 1
part B text: BANK 2
part C text: BANK 3
part D text: BANK 4

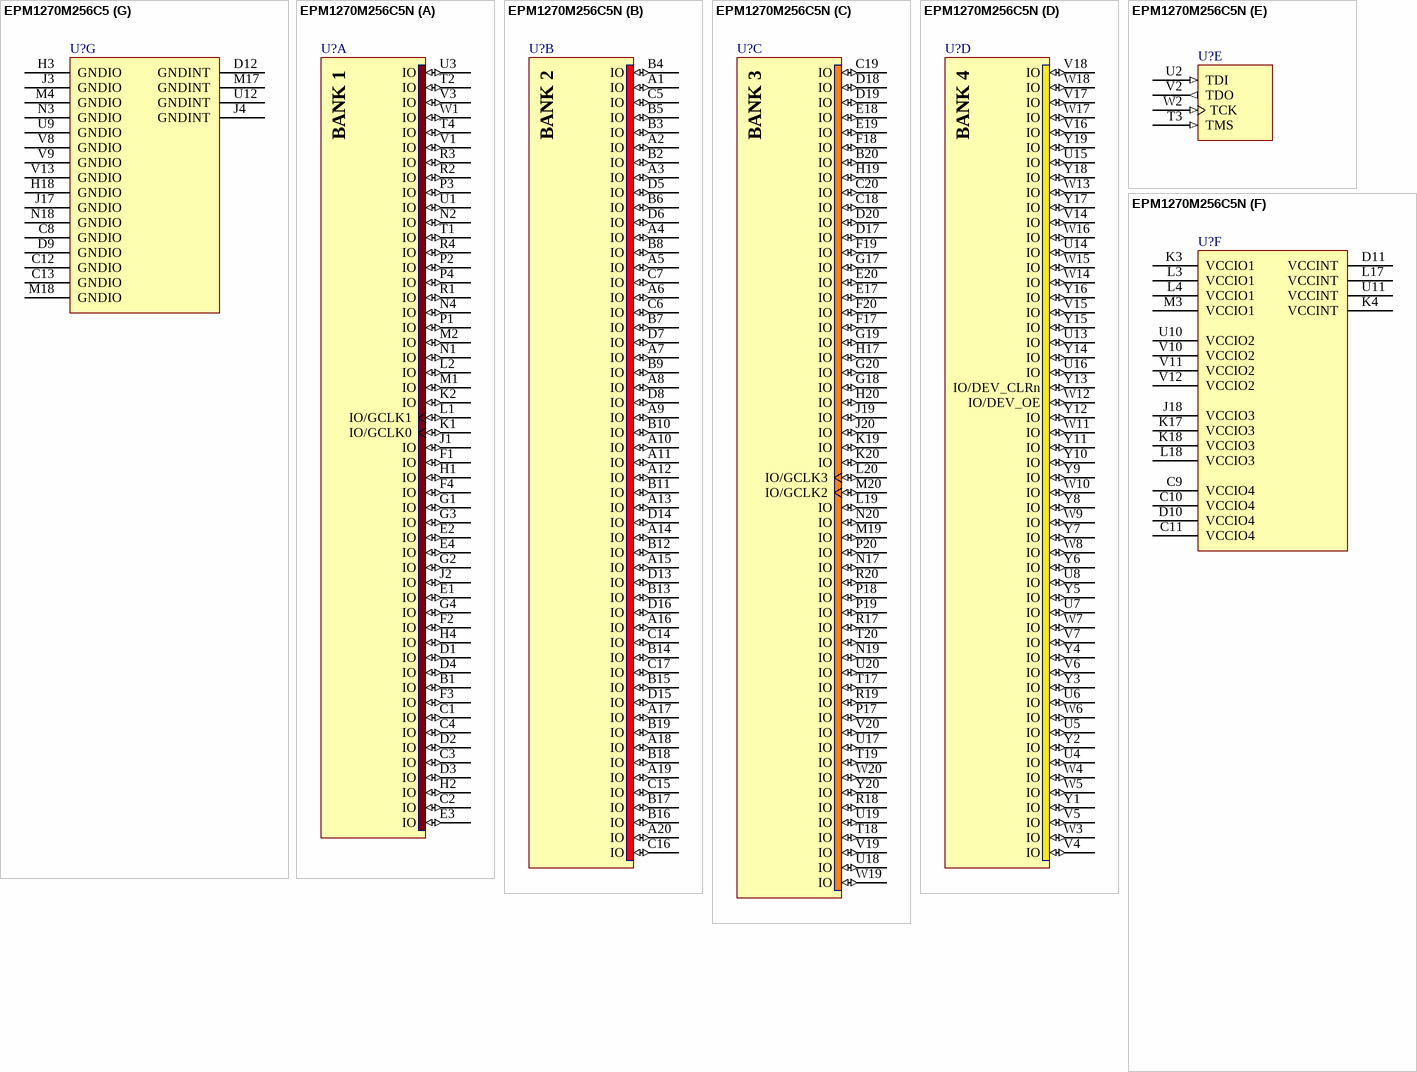
[diagram p104: symbols EPM1270M256C5 to EPM1270M256C5N]

## EPM1270M256C5
designator U?
MAX II 3.3/2.5V CPLD, 212 IOs, 1270 Logic Elements, 256-Pin Micro Fineline BGA, Commercial Temperature, Speed Grade 5; Note: Each set of VCCIO pins can be connected to 3.3V, 2.5V, 1.8V, or 1.5V.; Note: All VCCINT pins must be connected to either 3.3V or 2.5V (but not a combination of both).; Published: 31-Jul-2006; DatasheetVersion: ver1.8, Jul-2006; PackageVersion: ver14.3, Jul-2006; PackageReference: MBGA256; Publisher: Altium Limited; PackageDescription: 256-Ball Micro FineLine Ball Grid Array (MBGA256); ComponentLink1Description: Manufacturer Link; ComponentLink1URL: http://www.altera.com/products/devices/cpld/max2/mx2-index.jsp; ComponentLink2Description: Handbook; ComponentLink2URL: http://www.altera.com/literature/hb/max2/max2_mii5v1.pdf; ComponentLink3Description: Packaging Specification; ComponentLink3URL: http://www.altera.com/literature/ds/dspkg.pdf
footprint MBGA256 (BGA, 256-Leads, Body 11x11mm, Pitch 0.5mm)
3D model EPM1270-MBGA256 (256-Ball Micro FineLine Ball Grid Array (MBGA256))
part A pins: B1 IO (io), C1 IO (io), C2 IO (io), C3 IO (io), C4 IO (io), D1 IO (io), D2 IO (io), D3 IO (io), D4 IO (io), E1 IO (io), E2 IO (io), E3 IO (io), E4 IO (io), F1 IO (io), F2 IO (io), F3 IO (io), F4 IO (io), G1 IO (io), G2 IO (io), G3 IO (io), G4 IO (io), H1 IO (io), H2 IO (io), H4 IO (io), J1 IO (io), J2 IO (io), K1 IO/GCLK0 (io), K2 IO (io), L1 IO/GCLK1 (io), L2 IO (io), M1 IO (io), M2 IO (io), N1 IO (io), N2 IO (io), N4 IO (io), P1 IO (io), P2 IO (io), P3 IO (io), P4 IO (io), R1 IO (io), R2 IO (io), R3 IO (io), R4 IO (io), T1 IO (io), T2 IO (io), T4 IO (io), U1 IO (io), U3 IO (io), V1 IO (io), V3 IO (io), W1 IO (io)
part B pins: A1 IO (io), A2 IO (io), A3 IO (io), A4 IO (io), A5 IO (io), A6 IO (io), A7 IO (io), A8 IO (io), A9 IO (io), A10 IO (io), A11 IO (io), A12 IO (io), A13 IO (io), A14 IO (io), A15 IO (io), A16 IO (io), A17 IO (io), A18 IO (io), A19 IO (io), A20 IO (io), B2 IO (io), B3 IO (io), B4 IO (io), B5 IO (io), B6 IO (io), B7 IO (io), B8 IO (io), B9 IO (io), B10 IO (io), B11 IO (io), B12 IO (io), B13 IO (io), B14 IO (io), B15 IO (io), B16 IO (io), B17 IO (io), B18 IO (io), B19 IO (io), C5 IO (io), C6 IO (io), C7 IO (io), C14 IO (io), C15 IO (io), C16 IO (io), C17 IO (io), D5 IO (io), D6 IO (io), D7 IO (io), D8 IO (io), D13 IO (io), D14 IO (io), D15 IO (io), D16 IO (io)
part C pins: B20 IO (io), C18 IO (io), C19 IO (io), C20 IO (io), D17 IO (io), D18 IO (io), D19 IO (io), D20 IO (io), E17 IO (io), E18 IO (io), E19 IO (io), E20 IO (io), F17 IO (io), F18 IO (io), F19 IO (io), F20 IO (io), G17 IO (io), G18 IO (io), G19 IO (io), G20 IO (io), H17 IO (io), H19 IO (io), H20 IO (io), J19 IO (io), J20 IO (io), K19 IO (io), K20 IO (io), L19 IO (io), L20 IO/GCLK3 (io), M19 IO (io), M20 IO/GCLK2 (io), N17 IO (io), N19 IO (io), N20 IO (io), P17 IO (io), P18 IO (io), P19 IO (io), P20 IO (io), R17 IO (io), R18 IO (io), R19 IO (io), R20 IO (io), T17 IO (io), T18 IO (io), T19 IO (io), T20 IO (io), U17 IO (io), U18 IO (io), U19 IO (io), U20 IO (io), V19 IO (io), V20 IO (io), W19 IO (io), W20 IO (io), Y20 IO (io)
part D pins: U4 IO (io), U5 IO (io), U6 IO (io), U7 IO (io), U8 IO (io), U13 IO (io), U14 IO (io), U15 IO (io), U16 IO (io), V4 IO (io), V5 IO (io), V6 IO (io), V7 IO (io), V14 IO (io), V15 IO (io), V16 IO (io), V17 IO (io), V18 IO (io), W3 IO (io), W4 IO (io), W5 IO (io), W6 IO (io), W7 IO (io), W8 IO (io), W9 IO (io), W10 IO (io), W11 IO (io), W12 IO/DEV_OE (io), W13 IO (io), W14 IO (io), W15 IO (io), W16 IO (io), W17 IO (io), W18 IO (io), Y1 IO (io), Y2 IO (io), Y3 IO (io), Y4 IO (io), Y5 IO (io), Y6 IO (io), Y7 IO (io), Y8 IO (io), Y9 IO (io), Y10 IO (io), Y11 IO (io), Y12 IO (io), Y13 IO/DEV_CLRn (io), Y14 IO (io), Y15 IO (io), Y16 IO (io), Y17 IO (io), Y18 IO (io), Y19 IO (io)
part E pins: T3 TMS (in), U2 TDI (in), V2 TDO (out), W2 TCK (in)
part F pins: C9 VCCIO4 (power), C10 VCCIO4 (power), C11 VCCIO4 (power), D10 VCCIO4 (power), D11 VCCINT (power), J18 VCCIO3 (power), K3 VCCIO1 (power), K4 VCCINT (power), K17 VCCIO3 (power), K18 VCCIO3 (power), L3 VCCIO1 (power), L4 VCCIO1 (power), L17 VCCINT (power), L18 VCCIO3 (power), M3 VCCIO1 (power), U10 VCCIO2 (power), U11 VCCINT (power), V10 VCCIO2 (power), V11 VCCIO2 (power), V12 VCCIO2 (power)
part G pins: C8 GNDIO (power), C12 GNDIO (power), C13 GNDIO (power), D9 GNDIO (power), D12 GNDINT (power), H3 GNDIO (power), H18 GNDIO (power), J3 GNDIO (power), J4 GNDINT (power), J17 GNDIO (power), M4 GNDIO (power), M17 GNDINT (power), M18 GNDIO (power), N3 GNDIO (power), N18 GNDIO (power), U9 GNDIO (power), U12 GNDINT (power), V8 GNDIO (power), V9 GNDIO (power), V13 GNDIO (power)
part A text: BANK 1
part B text: BANK 2
part C text: BANK 3
part D text: BANK 4

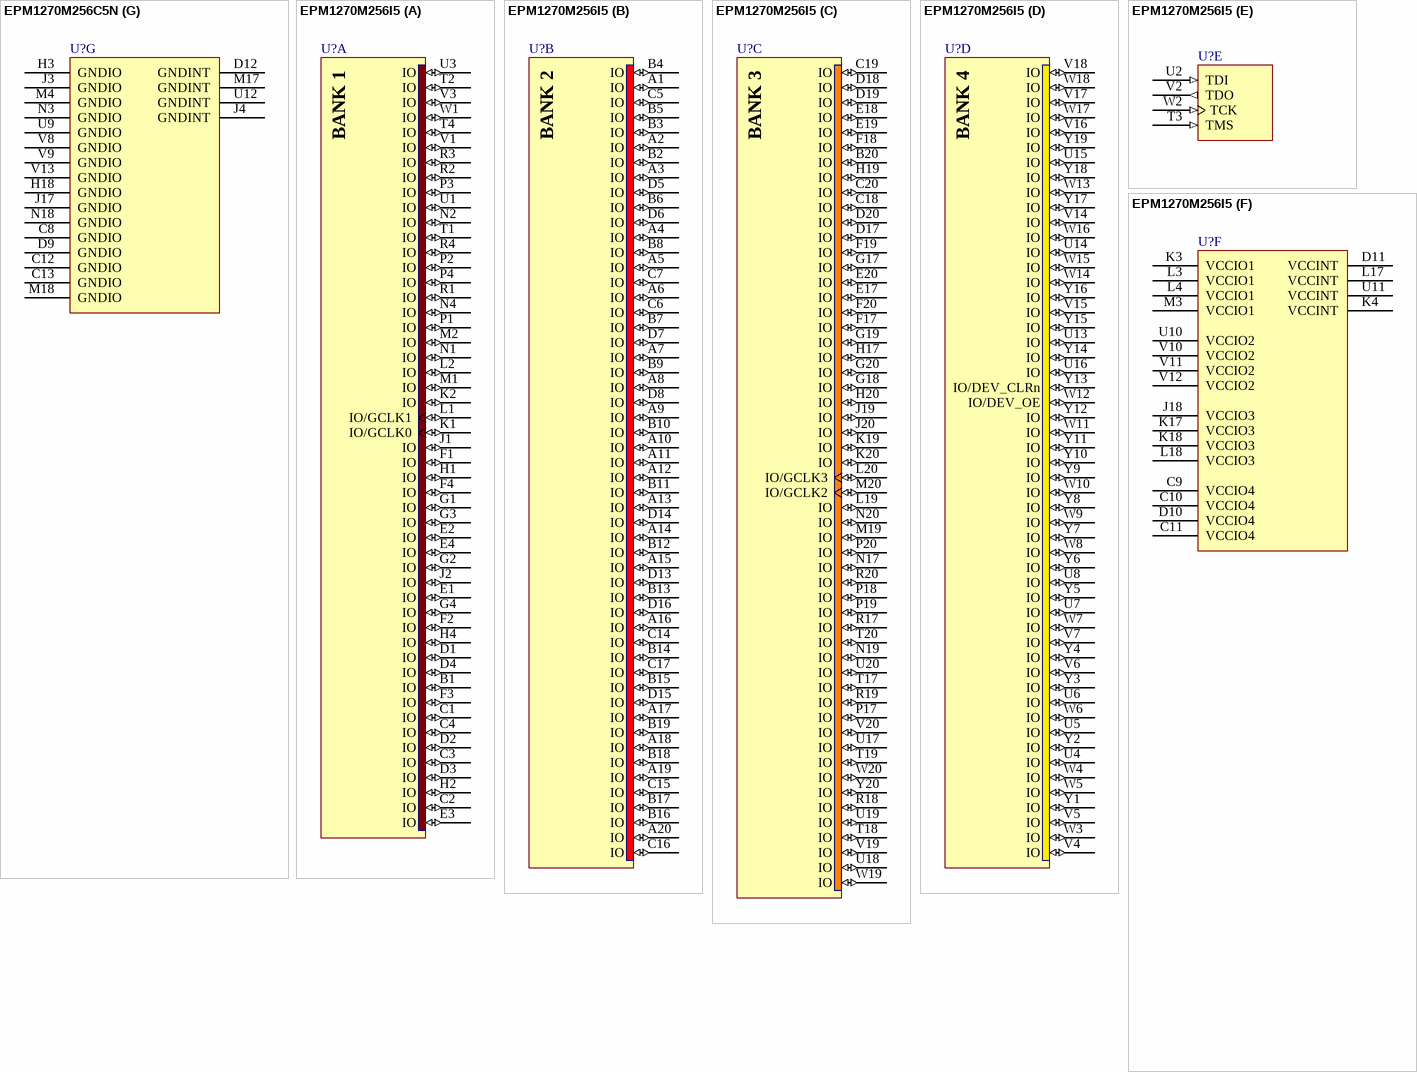
[diagram p105: symbols EPM1270M256C5N to EPM1270M256I5]

## EPM1270M256C5N
designator U?
MAX II 3.3/2.5V CPLD, 212 IOs, 1270 Logic Elements, 256-Pin Micro Fineline BGA, Commercial Temperature, Speed Grade 5, Pb-Free; Note: Each set of VCCIO pins can be connected to 3.3V, 2.5V, 1.8V, or 1.5V.; Note: All VCCINT pins must be connected to either 3.3V or 2.5V (but not a combination of both).; Published: 31-Jul-2006; DatasheetVersion: ver1.8, Jul-2006; PackageVersion: ver14.3, Jul-2006; PackageReference: MBGA256; Publisher: Altium Limited; PackageDescription: 256-Ball Micro FineLine Ball Grid Array (MBGA256); Supplier 1: Digi-Key; Supplier Part Number 1: 544-1721-ND; Supplier 2: Farnell; Supplier Part Number 2: 1635102; ComponentLink1Description: Manufacturer Link; ComponentLink1URL: http://www.altera.com/products/devices/cpld/max2/mx2-index.jsp; ComponentLink2Description: Handbook; ComponentLink2URL: http://www.altera.com/literature/hb/max2/max2_mii5v1.pdf; ComponentLink3Description: Packaging Specification; ComponentLink3URL: http://www.altera.com/literature/ds/dspkg.pdf
footprint MBGA256 (BGA, 256-Leads, Body 11x11mm, Pitch 0.5mm)
3D model EPM1270-MBGA256 (256-Ball Micro FineLine Ball Grid Array (MBGA256))
part A pins: B1 IO (io), C1 IO (io), C2 IO (io), C3 IO (io), C4 IO (io), D1 IO (io), D2 IO (io), D3 IO (io), D4 IO (io), E1 IO (io), E2 IO (io), E3 IO (io), E4 IO (io), F1 IO (io), F2 IO (io), F3 IO (io), F4 IO (io), G1 IO (io), G2 IO (io), G3 IO (io), G4 IO (io), H1 IO (io), H2 IO (io), H4 IO (io), J1 IO (io), J2 IO (io), K1 IO/GCLK0 (io), K2 IO (io), L1 IO/GCLK1 (io), L2 IO (io), M1 IO (io), M2 IO (io), N1 IO (io), N2 IO (io), N4 IO (io), P1 IO (io), P2 IO (io), P3 IO (io), P4 IO (io), R1 IO (io), R2 IO (io), R3 IO (io), R4 IO (io), T1 IO (io), T2 IO (io), T4 IO (io), U1 IO (io), U3 IO (io), V1 IO (io), V3 IO (io), W1 IO (io)
part B pins: A1 IO (io), A2 IO (io), A3 IO (io), A4 IO (io), A5 IO (io), A6 IO (io), A7 IO (io), A8 IO (io), A9 IO (io), A10 IO (io), A11 IO (io), A12 IO (io), A13 IO (io), A14 IO (io), A15 IO (io), A16 IO (io), A17 IO (io), A18 IO (io), A19 IO (io), A20 IO (io), B2 IO (io), B3 IO (io), B4 IO (io), B5 IO (io), B6 IO (io), B7 IO (io), B8 IO (io), B9 IO (io), B10 IO (io), B11 IO (io), B12 IO (io), B13 IO (io), B14 IO (io), B15 IO (io), B16 IO (io), B17 IO (io), B18 IO (io), B19 IO (io), C5 IO (io), C6 IO (io), C7 IO (io), C14 IO (io), C15 IO (io), C16 IO (io), C17 IO (io), D5 IO (io), D6 IO (io), D7 IO (io), D8 IO (io), D13 IO (io), D14 IO (io), D15 IO (io), D16 IO (io)
part C pins: B20 IO (io), C18 IO (io), C19 IO (io), C20 IO (io), D17 IO (io), D18 IO (io), D19 IO (io), D20 IO (io), E17 IO (io), E18 IO (io), E19 IO (io), E20 IO (io), F17 IO (io), F18 IO (io), F19 IO (io), F20 IO (io), G17 IO (io), G18 IO (io), G19 IO (io), G20 IO (io), H17 IO (io), H19 IO (io), H20 IO (io), J19 IO (io), J20 IO (io), K19 IO (io), K20 IO (io), L19 IO (io), L20 IO/GCLK3 (io), M19 IO (io), M20 IO/GCLK2 (io), N17 IO (io), N19 IO (io), N20 IO (io), P17 IO (io), P18 IO (io), P19 IO (io), P20 IO (io), R17 IO (io), R18 IO (io), R19 IO (io), R20 IO (io), T17 IO (io), T18 IO (io), T19 IO (io), T20 IO (io), U17 IO (io), U18 IO (io), U19 IO (io), U20 IO (io), V19 IO (io), V20 IO (io), W19 IO (io), W20 IO (io), Y20 IO (io)
part D pins: U4 IO (io), U5 IO (io), U6 IO (io), U7 IO (io), U8 IO (io), U13 IO (io), U14 IO (io), U15 IO (io), U16 IO (io), V4 IO (io), V5 IO (io), V6 IO (io), V7 IO (io), V14 IO (io), V15 IO (io), V16 IO (io), V17 IO (io), V18 IO (io), W3 IO (io), W4 IO (io), W5 IO (io), W6 IO (io), W7 IO (io), W8 IO (io), W9 IO (io), W10 IO (io), W11 IO (io), W12 IO/DEV_OE (io), W13 IO (io), W14 IO (io), W15 IO (io), W16 IO (io), W17 IO (io), W18 IO (io), Y1 IO (io), Y2 IO (io), Y3 IO (io), Y4 IO (io), Y5 IO (io), Y6 IO (io), Y7 IO (io), Y8 IO (io), Y9 IO (io), Y10 IO (io), Y11 IO (io), Y12 IO (io), Y13 IO/DEV_CLRn (io), Y14 IO (io), Y15 IO (io), Y16 IO (io), Y17 IO (io), Y18 IO (io), Y19 IO (io)
part E pins: T3 TMS (in), U2 TDI (in), V2 TDO (out), W2 TCK (in)
part F pins: C9 VCCIO4 (power), C10 VCCIO4 (power), C11 VCCIO4 (power), D10 VCCIO4 (power), D11 VCCINT (power), J18 VCCIO3 (power), K3 VCCIO1 (power), K4 VCCINT (power), K17 VCCIO3 (power), K18 VCCIO3 (power), L3 VCCIO1 (power), L4 VCCIO1 (power), L17 VCCINT (power), L18 VCCIO3 (power), M3 VCCIO1 (power), U10 VCCIO2 (power), U11 VCCINT (power), V10 VCCIO2 (power), V11 VCCIO2 (power), V12 VCCIO2 (power)
part G pins: C8 GNDIO (power), C12 GNDIO (power), C13 GNDIO (power), D9 GNDIO (power), D12 GNDINT (power), H3 GNDIO (power), H18 GNDIO (power), J3 GNDIO (power), J4 GNDINT (power), J17 GNDIO (power), M4 GNDIO (power), M17 GNDINT (power), M18 GNDIO (power), N3 GNDIO (power), N18 GNDIO (power), U9 GNDIO (power), U12 GNDINT (power), V8 GNDIO (power), V9 GNDIO (power), V13 GNDIO (power)
part A text: BANK 1
part B text: BANK 2
part C text: BANK 3
part D text: BANK 4

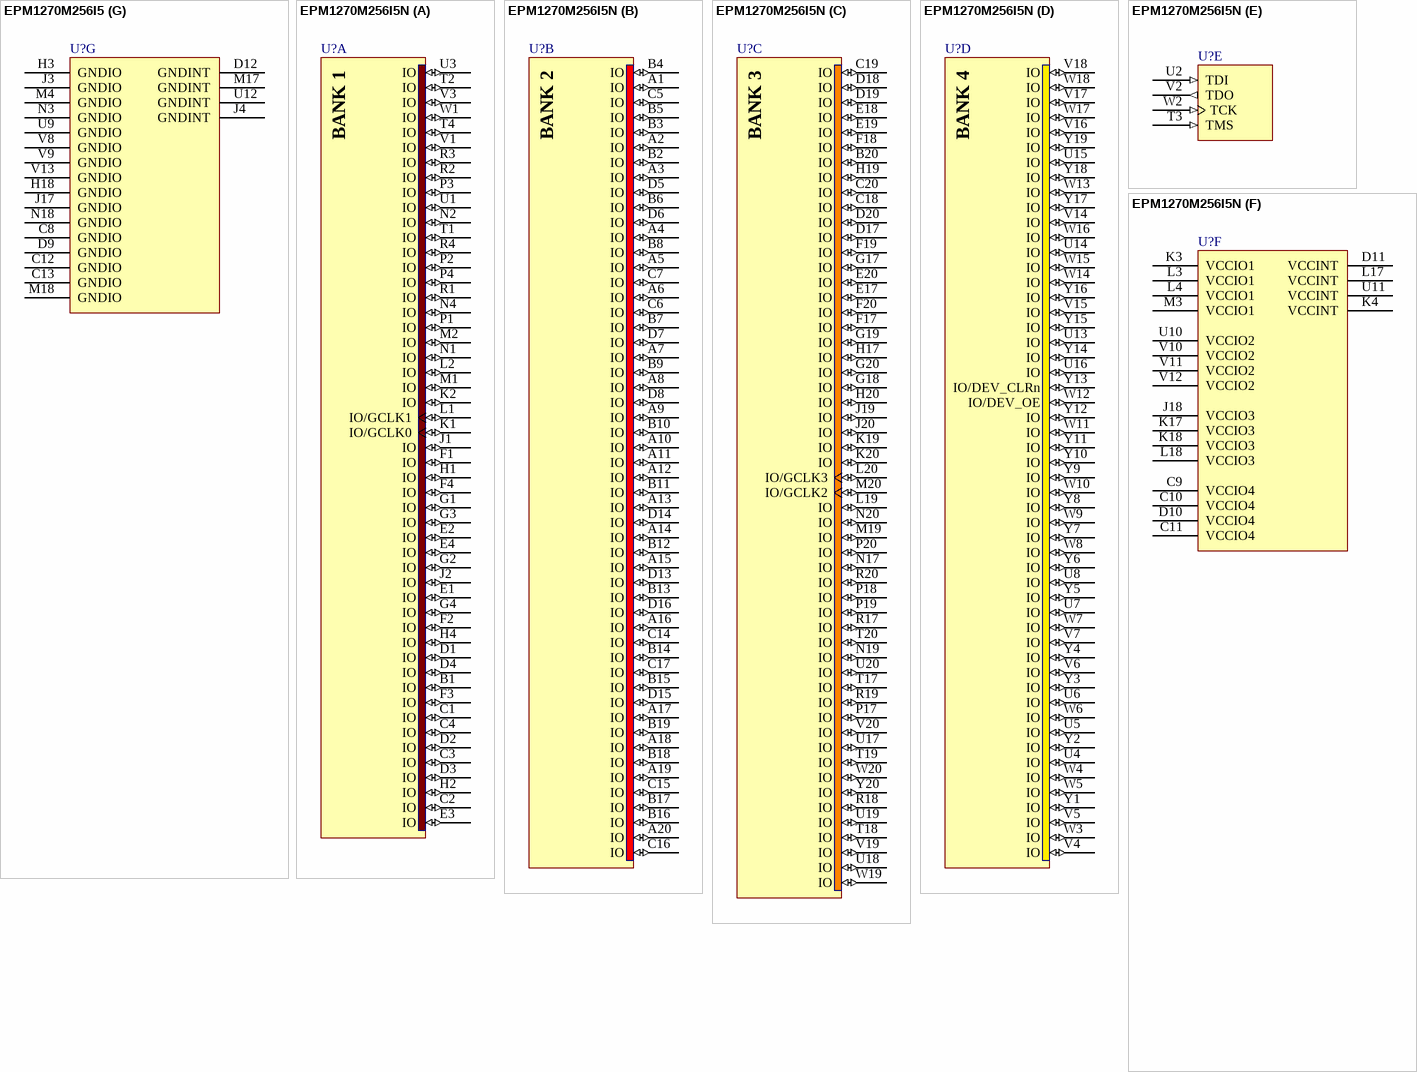
[diagram p106: symbols EPM1270M256I5 to EPM1270M256I5N]

## EPM1270M256I5
designator U?
MAX II 3.3/2.5V CPLD, 212 IOs, 1270 Logic Elements, 256-Pin Micro Fineline BGA, Industrial Temperature, Speed Grade 5; Note: Each set of VCCIO pins can be connected to 3.3V, 2.5V, 1.8V, or 1.5V.; Note: All VCCINT pins must be connected to either 3.3V or 2.5V (but not a combination of both).; Published: 31-Jul-2006; DatasheetVersion: ver1.8, Jul-2006; PackageVersion: ver14.3, Jul-2006; PackageReference: MBGA256; Publisher: Altium Limited; PackageDescription: 256-Ball Micro FineLine Ball Grid Array (MBGA256); ComponentLink1Description: Manufacturer Link; ComponentLink1URL: http://www.altera.com/products/devices/cpld/max2/mx2-index.jsp; ComponentLink2Description: Handbook; ComponentLink2URL: http://www.altera.com/literature/hb/max2/max2_mii5v1.pdf; ComponentLink3Description: Packaging Specification; ComponentLink3URL: http://www.altera.com/literature/ds/dspkg.pdf
footprint MBGA256 (BGA, 256-Leads, Body 11x11mm, Pitch 0.5mm)
3D model EPM1270-MBGA256 (256-Ball Micro FineLine Ball Grid Array (MBGA256))
part A pins: B1 IO (io), C1 IO (io), C2 IO (io), C3 IO (io), C4 IO (io), D1 IO (io), D2 IO (io), D3 IO (io), D4 IO (io), E1 IO (io), E2 IO (io), E3 IO (io), E4 IO (io), F1 IO (io), F2 IO (io), F3 IO (io), F4 IO (io), G1 IO (io), G2 IO (io), G3 IO (io), G4 IO (io), H1 IO (io), H2 IO (io), H4 IO (io), J1 IO (io), J2 IO (io), K1 IO/GCLK0 (io), K2 IO (io), L1 IO/GCLK1 (io), L2 IO (io), M1 IO (io), M2 IO (io), N1 IO (io), N2 IO (io), N4 IO (io), P1 IO (io), P2 IO (io), P3 IO (io), P4 IO (io), R1 IO (io), R2 IO (io), R3 IO (io), R4 IO (io), T1 IO (io), T2 IO (io), T4 IO (io), U1 IO (io), U3 IO (io), V1 IO (io), V3 IO (io), W1 IO (io)
part B pins: A1 IO (io), A2 IO (io), A3 IO (io), A4 IO (io), A5 IO (io), A6 IO (io), A7 IO (io), A8 IO (io), A9 IO (io), A10 IO (io), A11 IO (io), A12 IO (io), A13 IO (io), A14 IO (io), A15 IO (io), A16 IO (io), A17 IO (io), A18 IO (io), A19 IO (io), A20 IO (io), B2 IO (io), B3 IO (io), B4 IO (io), B5 IO (io), B6 IO (io), B7 IO (io), B8 IO (io), B9 IO (io), B10 IO (io), B11 IO (io), B12 IO (io), B13 IO (io), B14 IO (io), B15 IO (io), B16 IO (io), B17 IO (io), B18 IO (io), B19 IO (io), C5 IO (io), C6 IO (io), C7 IO (io), C14 IO (io), C15 IO (io), C16 IO (io), C17 IO (io), D5 IO (io), D6 IO (io), D7 IO (io), D8 IO (io), D13 IO (io), D14 IO (io), D15 IO (io), D16 IO (io)
part C pins: B20 IO (io), C18 IO (io), C19 IO (io), C20 IO (io), D17 IO (io), D18 IO (io), D19 IO (io), D20 IO (io), E17 IO (io), E18 IO (io), E19 IO (io), E20 IO (io), F17 IO (io), F18 IO (io), F19 IO (io), F20 IO (io), G17 IO (io), G18 IO (io), G19 IO (io), G20 IO (io), H17 IO (io), H19 IO (io), H20 IO (io), J19 IO (io), J20 IO (io), K19 IO (io), K20 IO (io), L19 IO (io), L20 IO/GCLK3 (io), M19 IO (io), M20 IO/GCLK2 (io), N17 IO (io), N19 IO (io), N20 IO (io), P17 IO (io), P18 IO (io), P19 IO (io), P20 IO (io), R17 IO (io), R18 IO (io), R19 IO (io), R20 IO (io), T17 IO (io), T18 IO (io), T19 IO (io), T20 IO (io), U17 IO (io), U18 IO (io), U19 IO (io), U20 IO (io), V19 IO (io), V20 IO (io), W19 IO (io), W20 IO (io), Y20 IO (io)
part D pins: U4 IO (io), U5 IO (io), U6 IO (io), U7 IO (io), U8 IO (io), U13 IO (io), U14 IO (io), U15 IO (io), U16 IO (io), V4 IO (io), V5 IO (io), V6 IO (io), V7 IO (io), V14 IO (io), V15 IO (io), V16 IO (io), V17 IO (io), V18 IO (io), W3 IO (io), W4 IO (io), W5 IO (io), W6 IO (io), W7 IO (io), W8 IO (io), W9 IO (io), W10 IO (io), W11 IO (io), W12 IO/DEV_OE (io), W13 IO (io), W14 IO (io), W15 IO (io), W16 IO (io), W17 IO (io), W18 IO (io), Y1 IO (io), Y2 IO (io), Y3 IO (io), Y4 IO (io), Y5 IO (io), Y6 IO (io), Y7 IO (io), Y8 IO (io), Y9 IO (io), Y10 IO (io), Y11 IO (io), Y12 IO (io), Y13 IO/DEV_CLRn (io), Y14 IO (io), Y15 IO (io), Y16 IO (io), Y17 IO (io), Y18 IO (io), Y19 IO (io)
part E pins: T3 TMS (in), U2 TDI (in), V2 TDO (out), W2 TCK (in)
part F pins: C9 VCCIO4 (power), C10 VCCIO4 (power), C11 VCCIO4 (power), D10 VCCIO4 (power), D11 VCCINT (power), J18 VCCIO3 (power), K3 VCCIO1 (power), K4 VCCINT (power), K17 VCCIO3 (power), K18 VCCIO3 (power), L3 VCCIO1 (power), L4 VCCIO1 (power), L17 VCCINT (power), L18 VCCIO3 (power), M3 VCCIO1 (power), U10 VCCIO2 (power), U11 VCCINT (power), V10 VCCIO2 (power), V11 VCCIO2 (power), V12 VCCIO2 (power)
part G pins: C8 GNDIO (power), C12 GNDIO (power), C13 GNDIO (power), D9 GNDIO (power), D12 GNDINT (power), H3 GNDIO (power), H18 GNDIO (power), J3 GNDIO (power), J4 GNDINT (power), J17 GNDIO (power), M4 GNDIO (power), M17 GNDINT (power), M18 GNDIO (power), N3 GNDIO (power), N18 GNDIO (power), U9 GNDIO (power), U12 GNDINT (power), V8 GNDIO (power), V9 GNDIO (power), V13 GNDIO (power)
part A text: BANK 1
part B text: BANK 2
part C text: BANK 3
part D text: BANK 4

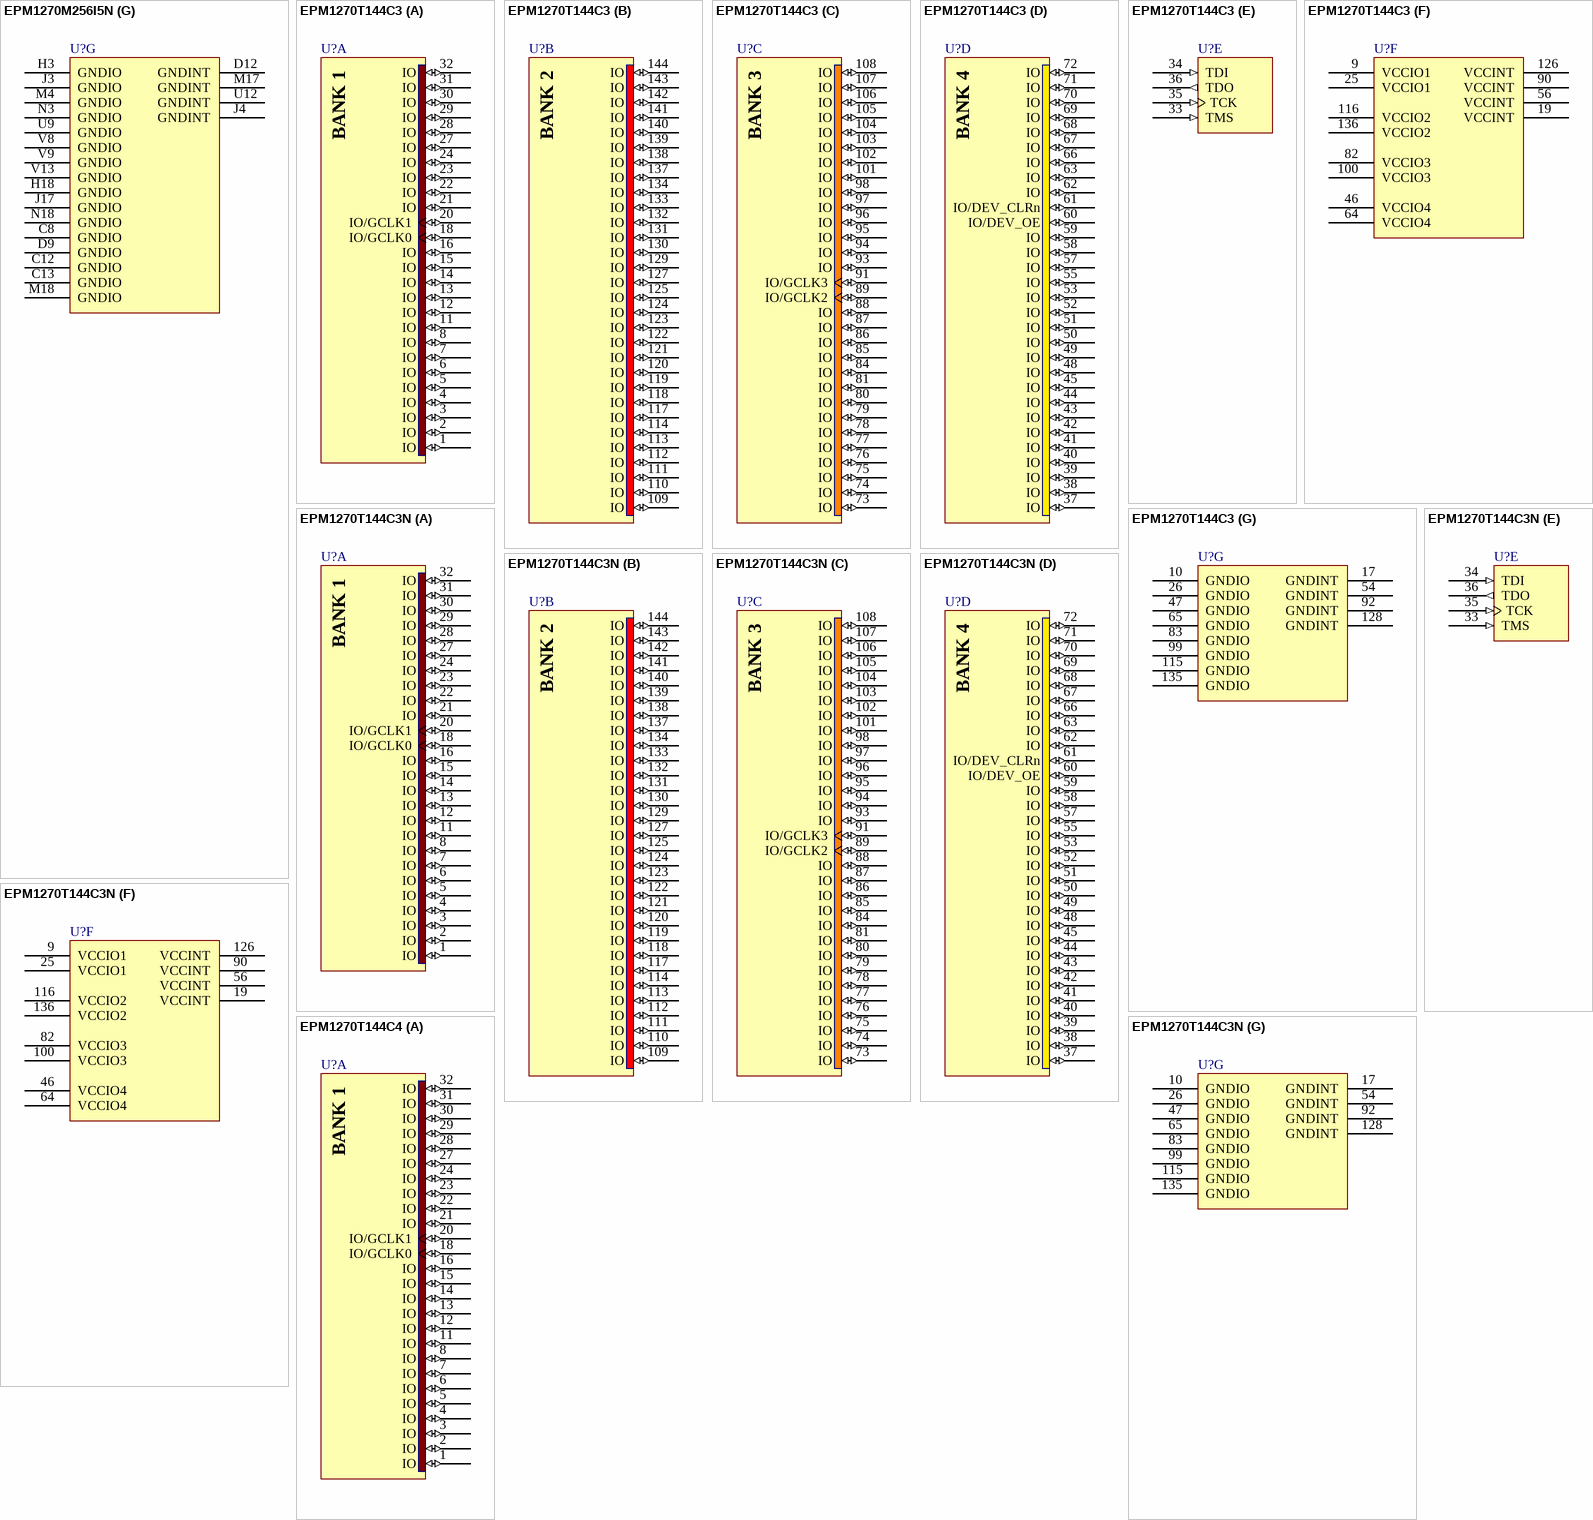
[diagram p107: symbols EPM1270M256I5N to EPM1270T144C4]

## EPM1270M256I5N
designator U?
MAX II 3.3/2.5V CPLD, 212 IOs, 1270 Logic Elements, 256-Pin Micro Fineline BGA, Industrial Temperature, Speed Grade 5, Pb-Free; Note: Each set of VCCIO pins can be connected to 3.3V, 2.5V, 1.8V, or 1.5V.; Note: All VCCINT pins must be connected to either 3.3V or 2.5V (but not a combination of both).; Published: 31-Jul-2006; DatasheetVersion: ver1.8, Jul-2006; PackageVersion: ver14.3, Jul-2006; PackageReference: MBGA256; Publisher: Altium Limited; PackageDescription: 256-Ball Micro FineLine Ball Grid Array (MBGA256); Supplier 1: Digi-Key; Supplier Part Number 1: 544-1723-ND; ComponentLink1Description: Manufacturer Link; ComponentLink1URL: http://www.altera.com/products/devices/cpld/max2/mx2-index.jsp; ComponentLink2Description: Handbook; ComponentLink2URL: http://www.altera.com/literature/hb/max2/max2_mii5v1.pdf; ComponentLink3Description: Packaging Specification; ComponentLink3URL: http://www.altera.com/literature/ds/dspkg.pdf
footprint MBGA256 (BGA, 256-Leads, Body 11x11mm, Pitch 0.5mm)
3D model EPM1270-MBGA256 (256-Ball Micro FineLine Ball Grid Array (MBGA256))
part A pins: B1 IO (io), C1 IO (io), C2 IO (io), C3 IO (io), C4 IO (io), D1 IO (io), D2 IO (io), D3 IO (io), D4 IO (io), E1 IO (io), E2 IO (io), E3 IO (io), E4 IO (io), F1 IO (io), F2 IO (io), F3 IO (io), F4 IO (io), G1 IO (io), G2 IO (io), G3 IO (io), G4 IO (io), H1 IO (io), H2 IO (io), H4 IO (io), J1 IO (io), J2 IO (io), K1 IO/GCLK0 (io), K2 IO (io), L1 IO/GCLK1 (io), L2 IO (io), M1 IO (io), M2 IO (io), N1 IO (io), N2 IO (io), N4 IO (io), P1 IO (io), P2 IO (io), P3 IO (io), P4 IO (io), R1 IO (io), R2 IO (io), R3 IO (io), R4 IO (io), T1 IO (io), T2 IO (io), T4 IO (io), U1 IO (io), U3 IO (io), V1 IO (io), V3 IO (io), W1 IO (io)
part B pins: A1 IO (io), A2 IO (io), A3 IO (io), A4 IO (io), A5 IO (io), A6 IO (io), A7 IO (io), A8 IO (io), A9 IO (io), A10 IO (io), A11 IO (io), A12 IO (io), A13 IO (io), A14 IO (io), A15 IO (io), A16 IO (io), A17 IO (io), A18 IO (io), A19 IO (io), A20 IO (io), B2 IO (io), B3 IO (io), B4 IO (io), B5 IO (io), B6 IO (io), B7 IO (io), B8 IO (io), B9 IO (io), B10 IO (io), B11 IO (io), B12 IO (io), B13 IO (io), B14 IO (io), B15 IO (io), B16 IO (io), B17 IO (io), B18 IO (io), B19 IO (io), C5 IO (io), C6 IO (io), C7 IO (io), C14 IO (io), C15 IO (io), C16 IO (io), C17 IO (io), D5 IO (io), D6 IO (io), D7 IO (io), D8 IO (io), D13 IO (io), D14 IO (io), D15 IO (io), D16 IO (io)
part C pins: B20 IO (io), C18 IO (io), C19 IO (io), C20 IO (io), D17 IO (io), D18 IO (io), D19 IO (io), D20 IO (io), E17 IO (io), E18 IO (io), E19 IO (io), E20 IO (io), F17 IO (io), F18 IO (io), F19 IO (io), F20 IO (io), G17 IO (io), G18 IO (io), G19 IO (io), G20 IO (io), H17 IO (io), H19 IO (io), H20 IO (io), J19 IO (io), J20 IO (io), K19 IO (io), K20 IO (io), L19 IO (io), L20 IO/GCLK3 (io), M19 IO (io), M20 IO/GCLK2 (io), N17 IO (io), N19 IO (io), N20 IO (io), P17 IO (io), P18 IO (io), P19 IO (io), P20 IO (io), R17 IO (io), R18 IO (io), R19 IO (io), R20 IO (io), T17 IO (io), T18 IO (io), T19 IO (io), T20 IO (io), U17 IO (io), U18 IO (io), U19 IO (io), U20 IO (io), V19 IO (io), V20 IO (io), W19 IO (io), W20 IO (io), Y20 IO (io)
part D pins: U4 IO (io), U5 IO (io), U6 IO (io), U7 IO (io), U8 IO (io), U13 IO (io), U14 IO (io), U15 IO (io), U16 IO (io), V4 IO (io), V5 IO (io), V6 IO (io), V7 IO (io), V14 IO (io), V15 IO (io), V16 IO (io), V17 IO (io), V18 IO (io), W3 IO (io), W4 IO (io), W5 IO (io), W6 IO (io), W7 IO (io), W8 IO (io), W9 IO (io), W10 IO (io), W11 IO (io), W12 IO/DEV_OE (io), W13 IO (io), W14 IO (io), W15 IO (io), W16 IO (io), W17 IO (io), W18 IO (io), Y1 IO (io), Y2 IO (io), Y3 IO (io), Y4 IO (io), Y5 IO (io), Y6 IO (io), Y7 IO (io), Y8 IO (io), Y9 IO (io), Y10 IO (io), Y11 IO (io), Y12 IO (io), Y13 IO/DEV_CLRn (io), Y14 IO (io), Y15 IO (io), Y16 IO (io), Y17 IO (io), Y18 IO (io), Y19 IO (io)
part E pins: T3 TMS (in), U2 TDI (in), V2 TDO (out), W2 TCK (in)
part F pins: C9 VCCIO4 (power), C10 VCCIO4 (power), C11 VCCIO4 (power), D10 VCCIO4 (power), D11 VCCINT (power), J18 VCCIO3 (power), K3 VCCIO1 (power), K4 VCCINT (power), K17 VCCIO3 (power), K18 VCCIO3 (power), L3 VCCIO1 (power), L4 VCCIO1 (power), L17 VCCINT (power), L18 VCCIO3 (power), M3 VCCIO1 (power), U10 VCCIO2 (power), U11 VCCINT (power), V10 VCCIO2 (power), V11 VCCIO2 (power), V12 VCCIO2 (power)
part G pins: C8 GNDIO (power), C12 GNDIO (power), C13 GNDIO (power), D9 GNDIO (power), D12 GNDINT (power), H3 GNDIO (power), H18 GNDIO (power), J3 GNDIO (power), J4 GNDINT (power), J17 GNDIO (power), M4 GNDIO (power), M17 GNDINT (power), M18 GNDIO (power), N3 GNDIO (power), N18 GNDIO (power), U9 GNDIO (power), U12 GNDINT (power), V8 GNDIO (power), V9 GNDIO (power), V13 GNDIO (power)
part A text: BANK 1
part B text: BANK 2
part C text: BANK 3
part D text: BANK 4

## EPM1270T144C3
designator U?
MAX II 3.3/2.5V CPLD, 116 IOs, 1,270 Logic Elements, 144-Pin Plastic TQFP, Commercial Temperature, Speed Grade 3; Note: Each set of VCCIO pins can be connected to 3.3V, 2.5V, 1.8V, or 1.5V.; Note: All VCCINT pins must be connected to either 3.3V or 2.5V (but not a combination of both).; Published: 15-Jul-2004; LatestRevisionDate: 13-Apr-2006; LatestRevisionNote: IPC-7351 Footprint Added.; DatasheetVersion: ver1.8, Jul-2006; PackageVersion: ver15.4, Dec-2008; PackageReference: TQFP144; Publisher: Altium Limited; PackageDescription: 144-Pin Plastic Thin Quad Flat Pack (TQFP144) - Wire Bond; Supplier 1: Digi-Key; Supplier Part Number 1: 544-1324-ND; Code_JEDEC: MS-026-BFB; ComponentLink1Description: Manufacturer Link; ComponentLink1URL: http://www.altera.com/products/devices/cpld/max2/mx2-index.jsp; ComponentLink2Description: Handbook; ComponentLink2URL: http://www.altera.com/literature/hb/max2/max2_mii5v1.pdf; ComponentLink3Description: Packaging Specification; ComponentLink3URL: http://www.altera.com/literature/ds/dspkg.pdf
footprint TQFP144_N (Thin QFP, 144-Leads, Body 20x20mm, Pitch 0.5mm, IPC Medium Density)
footprint TQFP144_L (Thin QFP, 144-Leads, Body 20x20mm, Pitch 0.5mm, IPC High Density)
footprint TQFP144_M (Thin QFP, 144-Leads, Body 20x20mm, Pitch 0.5mm, IPC Low Density)
3D model EPM1270-TQFP144 (144-Pin Plastic Thin Quad Flat Pack (TQFP144) - Wire Bond)
part A pins: 1 IO (io), 2 IO (io), 3 IO (io), 4 IO (io), 5 IO (io), 6 IO (io), 7 IO (io), 8 IO (io), 11 IO (io), 12 IO (io), 13 IO (io), 14 IO (io), 15 IO (io), 16 IO (io), 18 IO/GCLK0 (io), 20 IO/GCLK1 (io), 21 IO (io), 22 IO (io), 23 IO (io), 24 IO (io), 27 IO (io), 28 IO (io), 29 IO (io), 30 IO (io), 31 IO (io), 32 IO (io)
part B pins: 109 IO (io), 110 IO (io), 111 IO (io), 112 IO (io), 113 IO (io), 114 IO (io), 117 IO (io), 118 IO (io), 119 IO (io), 120 IO (io), 121 IO (io), 122 IO (io), 123 IO (io), 124 IO (io), 125 IO (io), 127 IO (io), 129 IO (io), 130 IO (io), 131 IO (io), 132 IO (io), 133 IO (io), 134 IO (io), 137 IO (io), 138 IO (io), 139 IO (io), 140 IO (io), 141 IO (io), 142 IO (io), 143 IO (io), 144 IO (io)
part C pins: 73 IO (io), 74 IO (io), 75 IO (io), 76 IO (io), 77 IO (io), 78 IO (io), 79 IO (io), 80 IO (io), 81 IO (io), 84 IO (io), 85 IO (io), 86 IO (io), 87 IO (io), 88 IO (io), 89 IO/GCLK2 (io), 91 IO/GCLK3 (io), 93 IO (io), 94 IO (io), 95 IO (io), 96 IO (io), 97 IO (io), 98 IO (io), 101 IO (io), 102 IO (io), 103 IO (io), 104 IO (io), 105 IO (io), 106 IO (io), 107 IO (io), 108 IO (io)
part D pins: 37 IO (io), 38 IO (io), 39 IO (io), 40 IO (io), 41 IO (io), 42 IO (io), 43 IO (io), 44 IO (io), 45 IO (io), 48 IO (io), 49 IO (io), 50 IO (io), 51 IO (io), 52 IO (io), 53 IO (io), 55 IO (io), 57 IO (io), 58 IO (io), 59 IO (io), 60 IO/DEV_OE (io), 61 IO/DEV_CLRn (io), 62 IO (io), 63 IO (io), 66 IO (io), 67 IO (io), 68 IO (io), 69 IO (io), 70 IO (io), 71 IO (io), 72 IO (io)
part E pins: 33 TMS (in), 34 TDI (in), 35 TCK (in), 36 TDO (out)
part F pins: 9 VCCIO1 (power), 19 VCCINT (power), 25 VCCIO1 (power), 46 VCCIO4 (power), 56 VCCINT (power), 64 VCCIO4 (power), 82 VCCIO3 (power), 90 VCCINT (power), 100 VCCIO3 (power), 116 VCCIO2 (power), 126 VCCINT (power), 136 VCCIO2 (power)
part G pins: 10 GNDIO (power), 17 GNDINT (power), 26 GNDIO (power), 47 GNDIO (power), 54 GNDINT (power), 65 GNDIO (power), 83 GNDIO (power), 92 GNDINT (power), 99 GNDIO (power), 115 GNDIO (power), 128 GNDINT (power), 135 GNDIO (power)
part A text: BANK 1
part B text: BANK 2
part C text: BANK 3
part D text: BANK 4

## EPM1270T144C3N
designator U?
MAX II 3.3/2.5V CPLD, 116 IOs, 1,270 Logic Elements, 144-Pin Plastic TQFP, Commercial Temperature, Speed Grade 3, Pb-Free; Note: Each set of VCCIO pins can be connected to 3.3V, 2.5V, 1.8V, or 1.5V.; Note: All VCCINT pins must be connected to either 3.3V or 2.5V (but not a combination of both).; Published: 4-Mar-2005; LatestRevisionDate: 13-Apr-2006; LatestRevisionNote: IPC-7351 Footprint Added.; DatasheetVersion: ver1.8, Jul-2006; PackageVersion: ver15.4, Dec-2008; PackageReference: TQFP144; Publisher: Altium Limited; PackageDescription: 144-Pin Plastic Thin Quad Flat Pack (TQFP144) - Wire Bond; Supplier 1: Digi-Key; Supplier Part Number 1: 544-1335-ND; Supplier 2: Farnell; Supplier Part Number 2: 1453471; Code_JEDEC: MS-026-BFB; ComponentLink1Description: Manufacturer Link; ComponentLink1URL: http://www.altera.com/products/devices/cpld/max2/mx2-index.jsp; ComponentLink2Description: Handbook; ComponentLink2URL: http://www.altera.com/literature/hb/max2/max2_mii5v1.pdf; ComponentLink3Description: Packaging Specification; ComponentLink3URL: http://www.altera.com/literature/ds/dspkg.pdf
footprint TQFP144_N (Thin QFP, 144-Leads, Body 20x20mm, Pitch 0.5mm, IPC Medium Density)
footprint TQFP144_L (Thin QFP, 144-Leads, Body 20x20mm, Pitch 0.5mm, IPC High Density)
footprint TQFP144_M (Thin QFP, 144-Leads, Body 20x20mm, Pitch 0.5mm, IPC Low Density)
3D model EPM1270-TQFP144 (144-Pin Plastic Thin Quad Flat Pack (TQFP144) - Wire Bond)
part A pins: 1 IO (io), 2 IO (io), 3 IO (io), 4 IO (io), 5 IO (io), 6 IO (io), 7 IO (io), 8 IO (io), 11 IO (io), 12 IO (io), 13 IO (io), 14 IO (io), 15 IO (io), 16 IO (io), 18 IO/GCLK0 (io), 20 IO/GCLK1 (io), 21 IO (io), 22 IO (io), 23 IO (io), 24 IO (io), 27 IO (io), 28 IO (io), 29 IO (io), 30 IO (io), 31 IO (io), 32 IO (io)
part B pins: 109 IO (io), 110 IO (io), 111 IO (io), 112 IO (io), 113 IO (io), 114 IO (io), 117 IO (io), 118 IO (io), 119 IO (io), 120 IO (io), 121 IO (io), 122 IO (io), 123 IO (io), 124 IO (io), 125 IO (io), 127 IO (io), 129 IO (io), 130 IO (io), 131 IO (io), 132 IO (io), 133 IO (io), 134 IO (io), 137 IO (io), 138 IO (io), 139 IO (io), 140 IO (io), 141 IO (io), 142 IO (io), 143 IO (io), 144 IO (io)
part C pins: 73 IO (io), 74 IO (io), 75 IO (io), 76 IO (io), 77 IO (io), 78 IO (io), 79 IO (io), 80 IO (io), 81 IO (io), 84 IO (io), 85 IO (io), 86 IO (io), 87 IO (io), 88 IO (io), 89 IO/GCLK2 (io), 91 IO/GCLK3 (io), 93 IO (io), 94 IO (io), 95 IO (io), 96 IO (io), 97 IO (io), 98 IO (io), 101 IO (io), 102 IO (io), 103 IO (io), 104 IO (io), 105 IO (io), 106 IO (io), 107 IO (io), 108 IO (io)
part D pins: 37 IO (io), 38 IO (io), 39 IO (io), 40 IO (io), 41 IO (io), 42 IO (io), 43 IO (io), 44 IO (io), 45 IO (io), 48 IO (io), 49 IO (io), 50 IO (io), 51 IO (io), 52 IO (io), 53 IO (io), 55 IO (io), 57 IO (io), 58 IO (io), 59 IO (io), 60 IO/DEV_OE (io), 61 IO/DEV_CLRn (io), 62 IO (io), 63 IO (io), 66 IO (io), 67 IO (io), 68 IO (io), 69 IO (io), 70 IO (io), 71 IO (io), 72 IO (io)
part E pins: 33 TMS (in), 34 TDI (in), 35 TCK (in), 36 TDO (out)
part F pins: 9 VCCIO1 (power), 19 VCCINT (power), 25 VCCIO1 (power), 46 VCCIO4 (power), 56 VCCINT (power), 64 VCCIO4 (power), 82 VCCIO3 (power), 90 VCCINT (power), 100 VCCIO3 (power), 116 VCCIO2 (power), 126 VCCINT (power), 136 VCCIO2 (power)
part G pins: 10 GNDIO (power), 17 GNDINT (power), 26 GNDIO (power), 47 GNDIO (power), 54 GNDINT (power), 65 GNDIO (power), 83 GNDIO (power), 92 GNDINT (power), 99 GNDIO (power), 115 GNDIO (power), 128 GNDINT (power), 135 GNDIO (power)
part A text: BANK 1
part B text: BANK 2
part C text: BANK 3
part D text: BANK 4

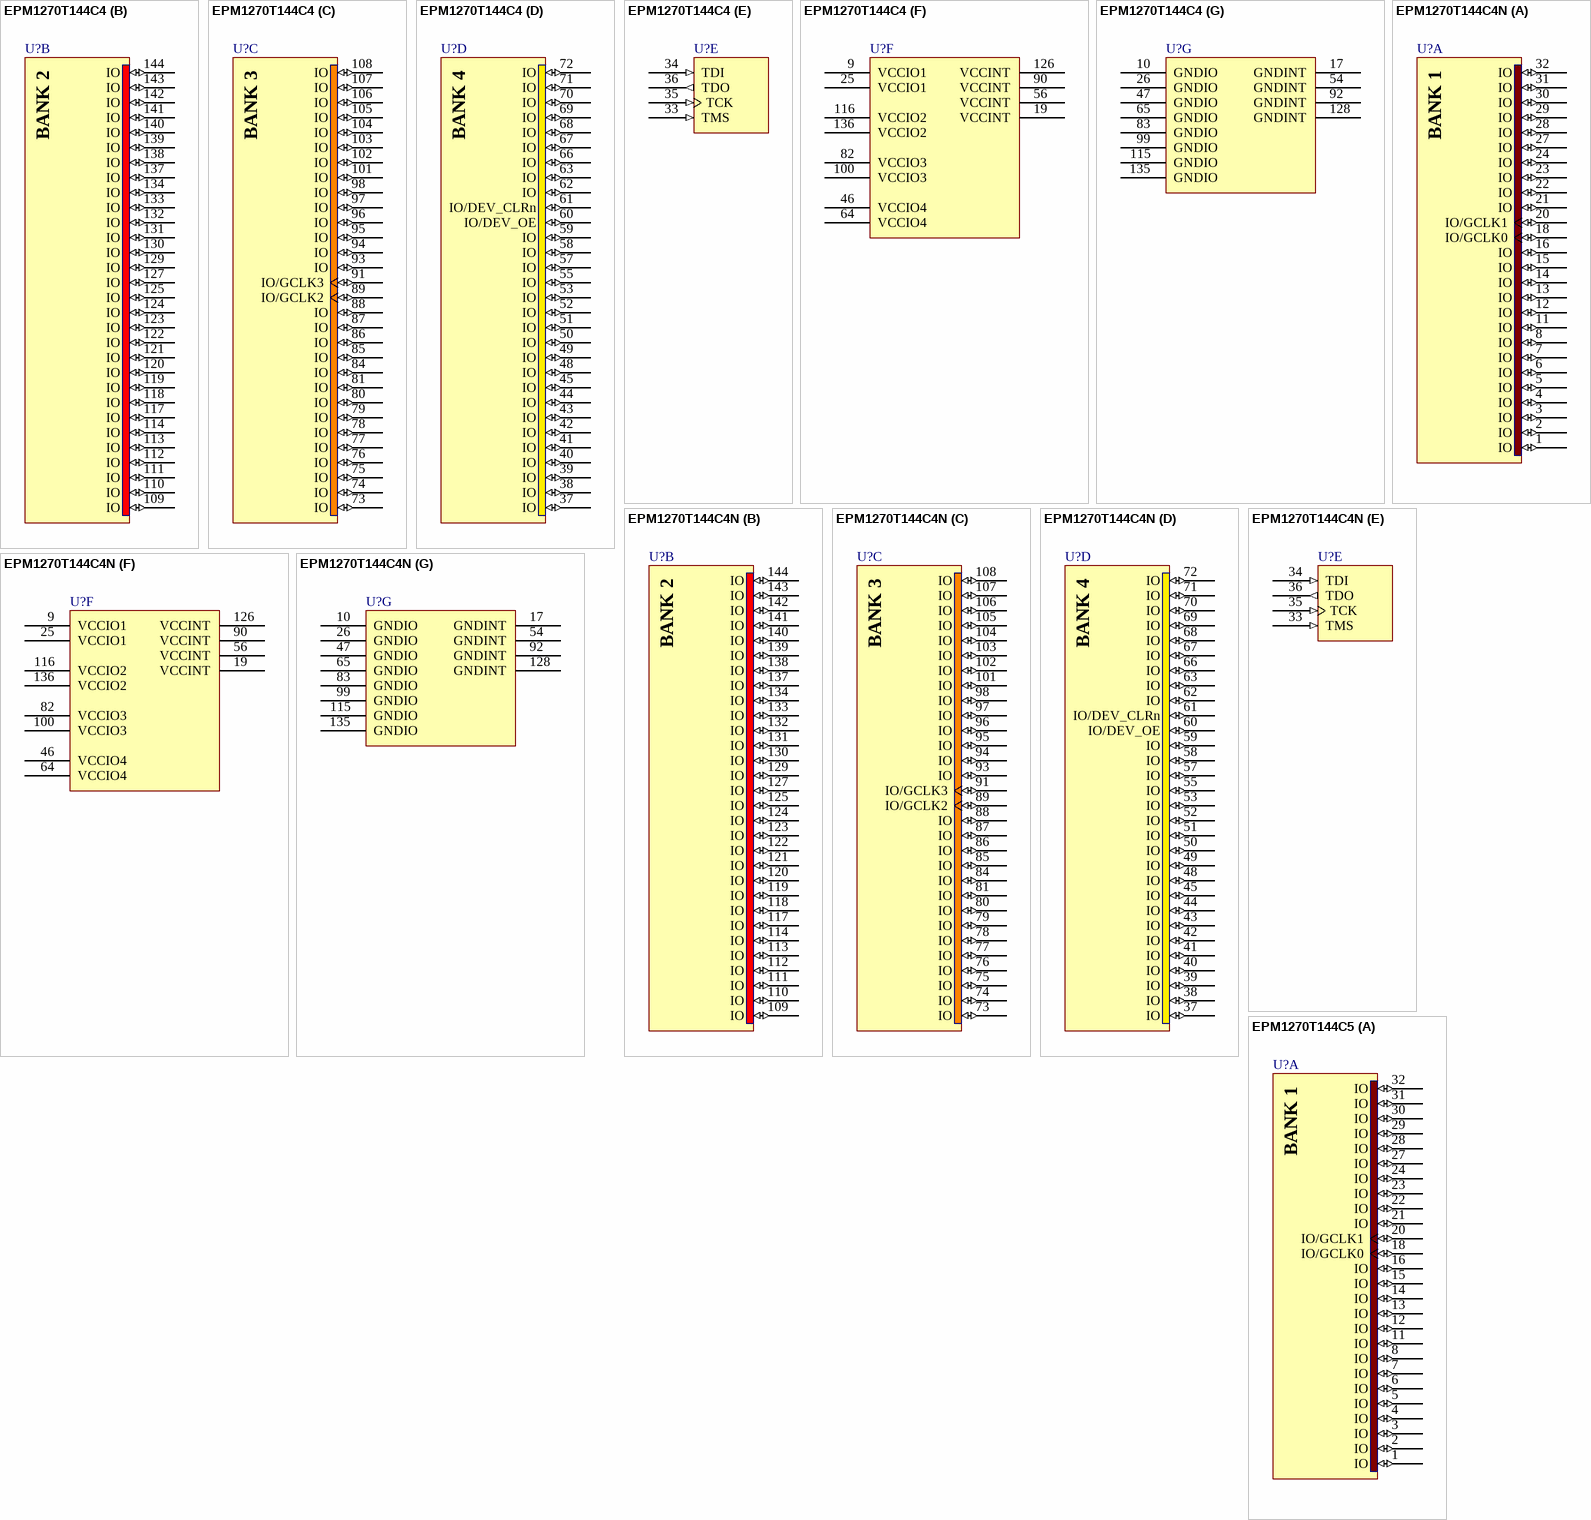
[diagram p108: symbols EPM1270T144C4 to EPM1270T144C5]